# Altium schematic symbol library ICs.SchLib: 131 symbols (part 1 of 2)
Pins are listed as number, name and electrical type; pins without a type are passive.

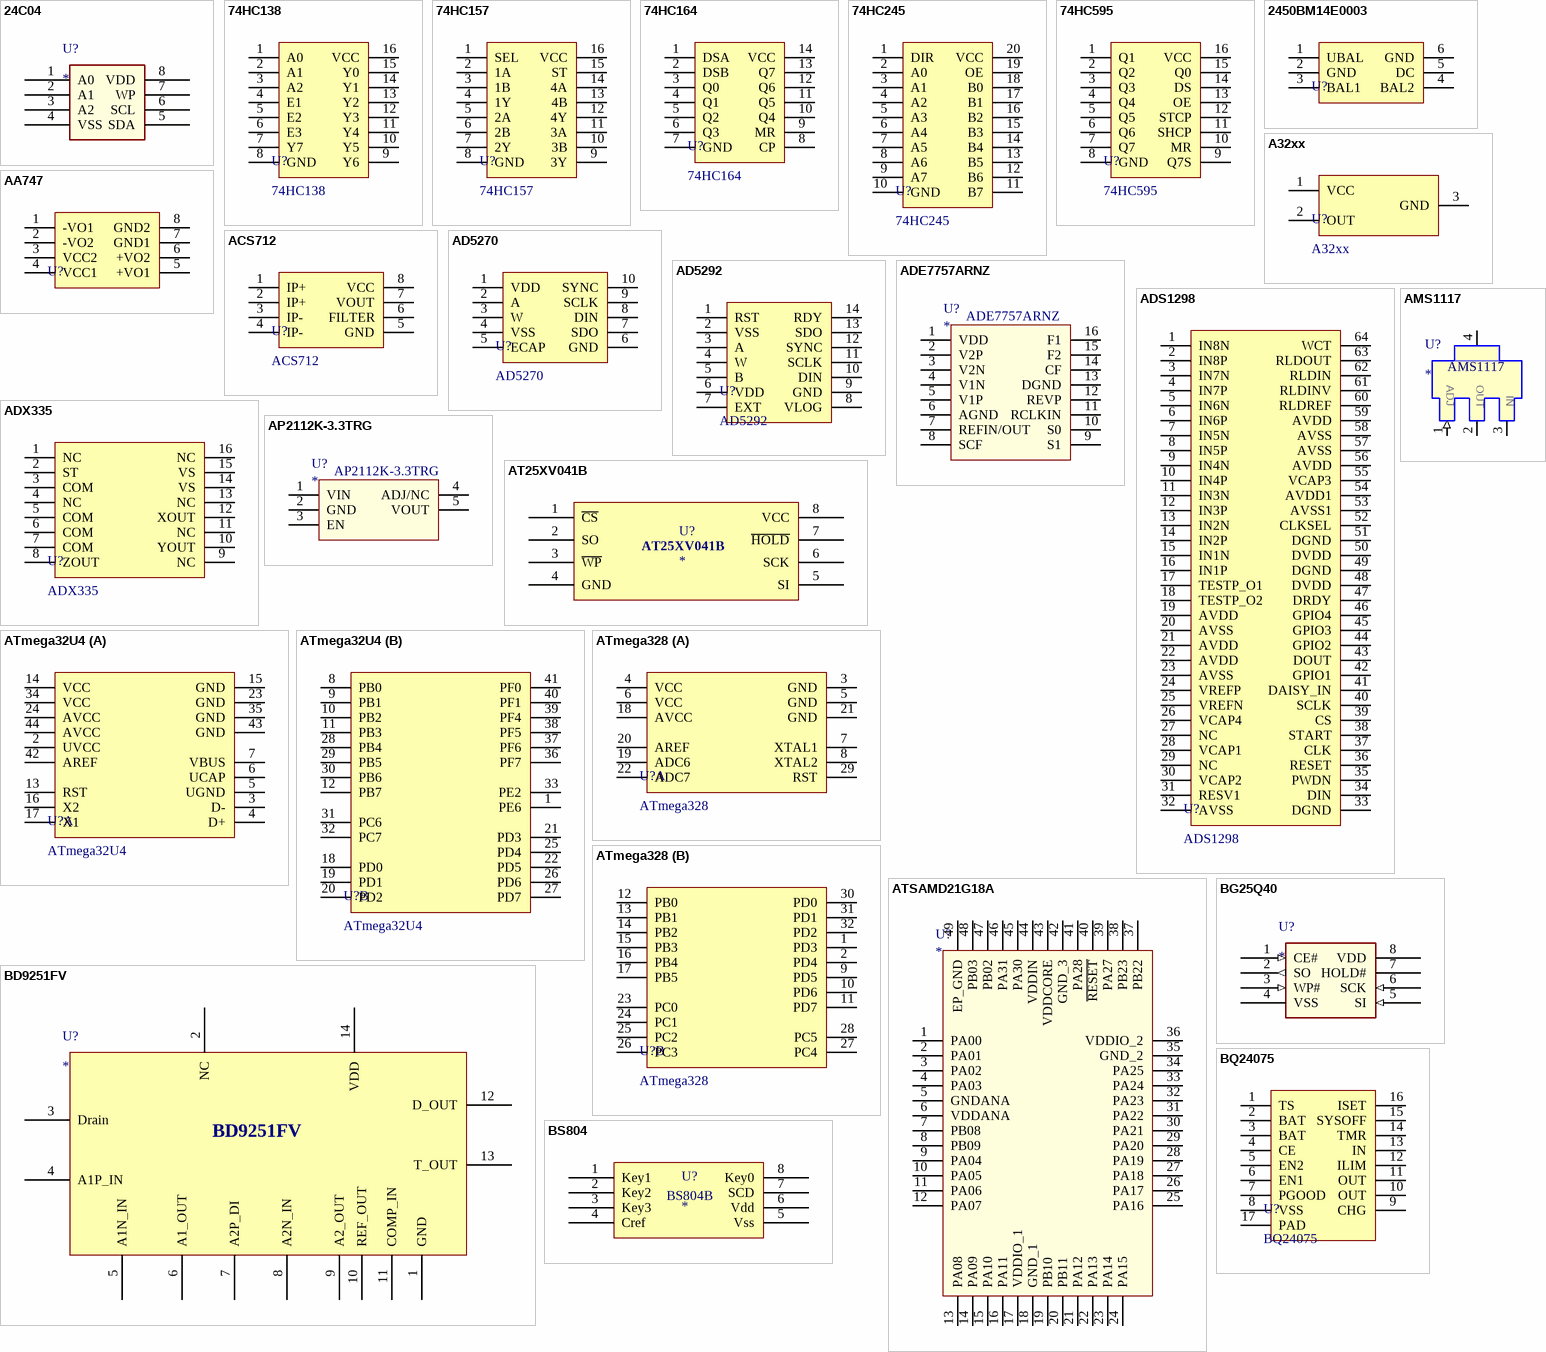
[diagram p0: symbols 24C04 to BS804]

## 24C04
designator U?
footprint SOIC-8
pins: 1 A0, 2 A1, 3 A2, 4 VSS, 5 SDA, 6 SCL, 7 WP, 8 VDD

## 74HC138
designator U?
74 Series
footprint SOP_E150_16
pins: 1 A0, 2 A1, 3 A2, 4 E1, 5 E2, 6 E3, 7 Y7, 8 GND, 9 Y6, 10 Y5, 11 Y4, 12 Y3, 13 Y2, 14 Y1, 15 Y0, 16 VCC

## 74HC157
designator U?
74 Series
footprint SOP_E150_16
pins: 1 SEL, 2 1A, 3 1B, 4 1Y, 5 2A, 6 2B, 7 2Y, 8 GND, 9 3Y, 10 3B, 11 3A, 12 4Y, 13 4B, 14 4A, 15 ST, 16 VCC

## 74HC164
designator U?
74 Series
footprint SOP_E150_14
pins: 1 DSA, 2 DSB, 3 Q0, 4 Q1, 5 Q2, 6 Q3, 7 GND, 8 CP, 9 MR, 10 Q4, 11 Q5, 12 Q6, 13 Q7, 14 VCC

## 74HC245
designator U?
74 Series
footprint SOP_E300_20
pins: 1 DIR, 2 A0, 3 A1, 4 A2, 5 A3, 6 A4, 7 A5, 8 A6, 9 A7, 10 GND, 11 B7, 12 B6, 13 B5, 14 B4, 15 B3, 16 B2, 17 B1, 18 B0, 19 OE, 20 VCC

## 74HC595
designator U?
74 Series
footprint SOP_E150_16
pins: 1 Q1, 2 Q2, 3 Q3, 4 Q4, 5 Q5, 6 Q6, 7 Q7, 8 GND, 9 Q7S, 10 MR, 11 SHCP, 12 STCP, 13 OE, 14 DS, 15 Q0, 16 VCC

## 2450BM14E0003
designator U?  (value not drawn)
Balun
footprint SMD_E60x30_P0.5_6
pins: 1 UBAL, 2 GND, 3 BAL1, 4 BAL2, 5 DC, 6 GND

## A32xx
designator U?
Sensor Hall
footprint SOT23-3
pins: 1 VCC, 2 OUT, 3 GND

## AA747
designator U?  (value not drawn)
Angular Sensor; Manufacturer: Sensitec GmbH; Value: E150 P1.27; Specification: -40 °C to +150 °C; Type: SOP8
footprint SOP_E150_8
pins: 1 -VO1, 2 -VO2, 3 VCC2, 4 VCC1, 5 +VO1, 6 +VO2, 7 GND1, 8 GND2

## ACS712
designator U?
Sensor Current
footprint SOP_E150_8
pins: 1 IP+, 2 IP+, 3 IP-, 4 IP-, 5 GND, 6 FILTER, 7 VOUT, 8 VCC

## AD5270
designator U?
Digital Pot
footprint MS5611
pins: 1 VDD, 2 A, 3 W, 4 VSS, 5 ECAP, 6 GND, 7 SDO, 8 DIN, 9 SCLK, 10 SYNC

## AD5292
designator U?
Digital Pot
footprint TSSOP_E170_P0.65_14
pins: 1 RST, 2 VSS, 3 A, 4 W, 5 B, 6 VDD, 7 EXT, 8 VLOG, 9 GND, 10 DIN, 11 SCLK, 12 SYNC, 13 SDO, 14 RDY

## ADE7757ARNZ
designator U?
footprint SOIC16 (9.90 mm × 3.91 mm)
pins: 1 VDD, 2 V2P, 3 V2N, 4 V1N, 5 V1P, 6 AGND, 7 REFIN/OUT, 8 SCF, 9 S1, 10 S0, 11 RCLKIN, 12 REVP, 13 DGND, 14 CF, 15 F2, 16 F1

## ADS1298
designator U?
ECG
footprint LQFP_P0.5_64
pins: 1 IN8N, 2 IN8P, 3 IN7N, 4 IN7P, 5 IN6N, 6 IN6P, 7 IN5N, 8 IN5P, 9 IN4N, 10 IN4P, 11 IN3N, 12 IN3P, 13 IN2N, 14 IN2P, 15 IN1N, 16 IN1P, 17 TESTP_O1, 18 TESTP_O2, 19 AVDD, 20 AVSS, 21 AVDD, 22 AVDD, 23 AVSS, 24 VREFP, 25 VREFN, 26 VCAP4, 27 NC, 28 VCAP1, 29 NC, 30 VCAP2, 31 RESV1, 32 AVSS, 33 DGND, 34 DIN, 35 PWDN, 36 RESET, 37 CLK, 38 START, 39 CS, 40 SCLK, 41 DAISY_IN, 42 GPIO1, 43 DOUT, 44 GPIO2, 45 GPIO3, 46 GPIO4, 47 DRDY, 48 DVDD, 49 DGND, 50 DVDD, 51 DGND, 52 CLKSEL, 53 AVSS1, 54 AVDD1, 55 VCAP3, 56 AVDD, 57 AVSS, 58 AVSS, 59 AVDD, 60 RLDREF, 61 RLDINV, 62 RLDIN, 63 RLDOUT, 64 WCT

## ADX335
designator U?
Sensor Motion
footprint QFN_P0.65_16
pins: 1 NC, 2 ST, 3 COM, 4 NC, 5 COM, 6 COM, 7 COM, 8 ZOUT, 9 NC, 10 YOUT, 11 NC, 12 XOUT, 13 NC, 14 VS, 15 VS, 16 NC

## AMS1117
designator U?
footprint SOT223 (SOT223, 4-Leads, Body 6.50x7.00mm (avg), Pitch 2.30mm, IPC Medium Density)
pins: 1 ADJ (in), 2 OUT (power), 3 IN (power), 4 VOUT (power)

## AP2112K-3.3TRG
designator U?
footprint SOT95P282X130-5N
pins: 1 VIN, 2 GND, 3 EN, 4 ADJ/NC, 5 VOUT

## AT25XV041B
designator U?
footprint 8-UDFN (8-UDFN, 8-Leads, Body 1.95x2.95mm, Pitch 0.50mm, IPC Medium Density)
pins: 1 ~{CS}, 2 SO, 3 ~{WP}, 4 GND, 5 SI, 6 SCK, 7 ~{HOLD}, 8 VCC

## ATmega32U4
designator U?
MCU
footprint QFN_P0.5_44
part A pins: 2 UVCC, 3 D-, 4 D+, 5 UGND, 6 UCAP, 7 VBUS, 13 RST, 14 VCC, 15 GND, 16 X2, 17 X1, 23 GND, 24 AVCC, 34 VCC, 35 GND, 42 AREF, 43 GND, 44 AVCC
part B pins: 1 PE6, 8 PB0, 9 PB1, 10 PB2, 11 PB3, 12 PB7, 18 PD0, 19 PD1, 20 PD2, 21 PD3, 22 PD5, 25 PD4, 26 PD6, 27 PD7, 28 PB4, 29 PB5, 30 PB6, 31 PC6, 32 PC7, 33 PE2, 36 PF7, 37 PF6, 38 PF5, 39 PF4, 40 PF1, 41 PF0

## ATmega328
designator U?
MCU
footprint LQFP_P0.8_32
part A pins: 3 GND, 4 VCC, 5 GND, 6 VCC, 7 XTAL1, 8 XTAL2, 18 AVCC, 19 ADC6, 20 AREF, 21 GND, 22 ADC7, 29 RST
part B pins: 1 PD3, 2 PD4, 9 PD5, 10 PD6, 11 PD7, 12 PB0, 13 PB1, 14 PB2, 15 PB3, 16 PB4, 17 PB5, 23 PC0, 24 PC1, 25 PC2, 26 PC3, 27 PC4, 28 PC5, 30 PD0, 31 PD1, 32 PD2

## ATSAMD21G18A
designator U?
footprint QFN50P700X700
pins: 1 PA00, 2 PA01, 3 PA02, 4 PA03, 5 GNDANA, 6 VDDANA (power), 7 PB08, 8 PB09, 9 PA04, 10 PA05, 11 PA06, 12 PA07, 13 PA08, 14 PA09, 15 PA10, 16 PA11, 17 VDDIO_1 (power), 18 GND_1, 19 PB10, 20 PB11, 21 PA12, 22 PA13, 23 PA14, 24 PA15, 25 PA16, 26 PA17, 27 PA18, 28 PA19, 29 PA20, 30 PA21, 31 PA22, 32 PA23, 33 PA24, 34 PA25, 35 GND_2, 36 VDDIO_2 (power), 37 PB22, 38 PB23, 39 PA27, 40 ~{RESET}, 41 PA28, 42 GND_3, 43 VDDCORE (power), 44 VDDIN (power), 45 PA30, 46 PA31, 47 PB02, 48 PB03, 49 EP_GND

## BD9251FV
designator U?
footprint SSOP-B14 (SSOP, 14-Leads, Body 5.10x4.50mm, Pitch 0.65mm, IPC Medium Density)
pins: 1 GND, 2 NC, 3 Drain, 4 A1P_IN, 5 A1N_IN, 6 A1_OUT, 7 A2P_DI, 8 A2N_IN, 9 A2_OUT, 10 REF_OUT, 11 COMP_IN, 12 D_OUT, 13 T_OUT, 14 VDD

## BG25Q40
designator U?
footprint SOIC-8
pins: 1 CE# (in), 2 SO (out), 3 WP# (in), 4 VSS (power), 5 SI (in), 6 SCK (in), 7 HOLD#, 8 VDD (power)

## BQ24075
designator U?
Power; Type: QFN16 P0.5
footprint QFN_P0.5_PAD_16
pins: 1 TS, 2 BAT, 3 BAT, 4 CE, 5 EN2, 6 EN1, 7 PGOOD, 8 VSS, 9 CHG, 10 OUT, 11 OUT, 12 ILIM, 13 IN, 14 TMR, 15 SYSOFF, 16 ISET, 17 PAD

## BS804
designator U?
footprint SOP-8
pins: 1 Key1, 2 Key2, 3 Key3, 4 Cref, 5 Vss, 6 Vdd, 7 SCD, 8 Key0
text: BS804B

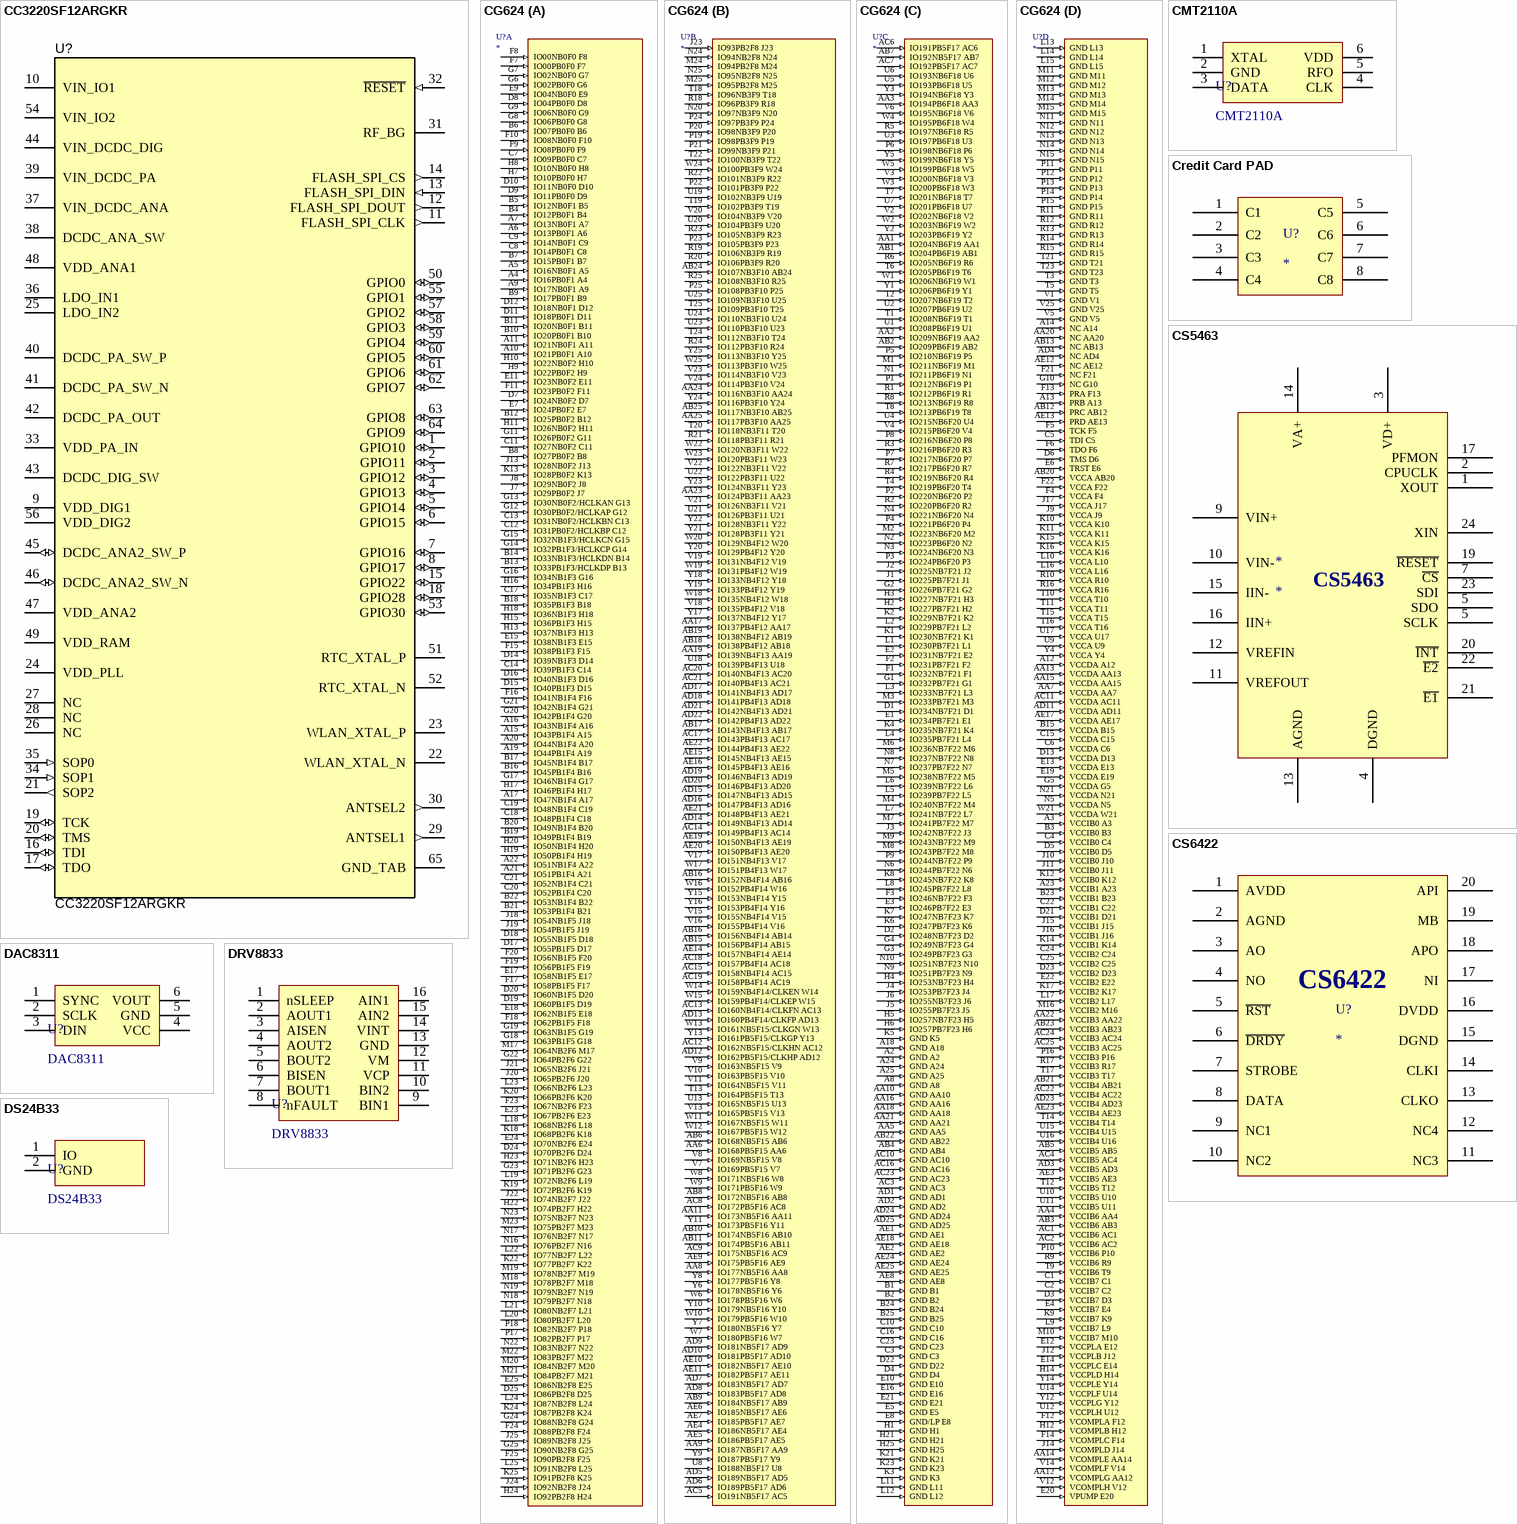
[diagram p1: symbols CC3220SF12ARGKR to DS24B33]

## CC3220SF12ARGKR
designator U?
SimpleLink Wi-Fi and Internet-of-Things Solution, a Single-Chip Wireless MCU, RGK0064B (VQFN-64); Alternate PartNumber: CC3220SF12ARGKT; Manufacturer: Texas Instruments; SymbolCreator: Altium; CompType: IC; U/M: EA; SizeArea_mm2: 81; SizeAreaWB_mm2: 121; SizeX_mm: 9; SizeZ_mm: 1; SymbolVersion: 2015-09-21; PartNumber: CC3220SF12ARGKR; PackageReference: RGK0064B; MountType: SMT; ComponentLink1Description: Datasheet Link; ComponentLink1URL: https://sps06.itg.ti.com/sites/KMS/crossdivteams/altium/docs/ComponentDatasheets/SWAS035_CC3220_Advanced_Information_July2015.pdf; Publisher: Texas Instruments; LatestRevisionDate: 2016-11-18; Alternate Manufacturer: Texas Instruments; PackageDescription: VQFN-64; SizeY_mm: 9
footprint RGK0064B
pins: 1 GPIO10 (io), 2 GPIO11 (io), 3 GPIO12 (io), 4 GPIO13 (io), 5 GPIO14 (io), 6 GPIO15 (io), 7 GPIO16 (io), 8 GPIO17 (io), 9 VDD_DIG1 (power), 10 VIN_IO1 (power), 11 FLASH_SPI_CLK (out), 12 FLASH_SPI_DOUT (out), 13 FLASH_SPI_DIN (in), 14 FLASH_SPI_CS (out), 15 GPIO22 (io), 16 TDI (io), 17 TDO (io), 18 GPIO28 (io), 19 TCK (io), 20 TMS (io), 21 SOP2 (out), 22 WLAN_XTAL_N, 23 WLAN_XTAL_P, 24 VDD_PLL (power), 25 LDO_IN2 (power), 26 NC, 27 NC, 28 NC, 29 ANTSEL1 (out), 30 ANTSEL2 (out), 31 RF_BG, 32 ~{RESET} (in), 33 VDD_PA_IN (power), 34 SOP1 (in), 35 SOP0 (in), 36 LDO_IN1 (power), 37 VIN_DCDC_ANA (power), 38 DCDC_ANA_SW (power), 39 VIN_DCDC_PA (power), 40 DCDC_PA_SW_P (power), 41 DCDC_PA_SW_N (power), 42 DCDC_PA_OUT (power), 43 DCDC_DIG_SW (power), 44 VIN_DCDC_DIG (power), 45 DCDC_ANA2_SW_P (io), 46 DCDC_ANA2_SW_N (io), 47 VDD_ANA2 (power), 48 VDD_ANA1 (power), 49 VDD_RAM (power), 50 GPIO0 (io), 51 RTC_XTAL_P, 52 RTC_XTAL_N, 53 GPIO30 (io), 54 VIN_IO2 (power), 55 GPIO1 (io), 56 VDD_DIG2 (power), 57 GPIO2 (io), 58 GPIO3 (io), 59 GPIO4 (io), 60 GPIO5 (io), 61 GPIO6 (io), 62 GPIO7 (io), 63 GPIO8 (io), 64 GPIO9 (io), 65 GND_TAB (power)

## CG624
designator U?
footprint CG624
part A pins: A4 IO16PB0F1 A4 (in), A5 IO16NB0F1 A5 (in), A6 IO13PB0F1 A6 (in), A7 IO13NB0F1 A7 (in), A9 IO17NB0F1 A9 (in), A10 IO21PB0F1 A10 (in), A11 IO21NB0F1 A11 (in), A15 IO43PB1F4 A15 (in), A16 IO43NB1F4 A16 (in), A17 IO47NB1F4 A17 (in), A19 IO44PB1F4 A19 (in), A20 IO44NB1F4 A20 (in), A21 IO51PB1F4 A21 (in), A22 IO51NB1F4 A22 (in), B4 IO12PB0F1 B4 (in), B5 IO12NB0F1 B5 (in), B6 IO07PB0F0 B6 (in), B7 IO15PB0F1 B7 (in), B8 IO27PB0F2 B8 (in), B9 IO17PB0F1 B9 (in), B10 IO20PB0F1 B10 (in), B11 IO20NB0F1 B11 (in), B12 IO25PB0F2 B12 (in), B13 IO33PB1F3/HCLKDP B13 (in), B14 IO33NB1F3/HCLKDN B14 (in), B16 IO45PB1F4 B16 (in), B17 IO45NB1F4 B17 (in), B18 IO35PB1F3 B18 (in), B19 IO49PB1F4 B19 (in), B20 IO49NB1F4 B20 (in), B21 IO53PB1F4 B21 (in), B22 IO53NB1F4 B22 (in), C7 IO09PB0F0 C7 (in), C8 IO14PB0F1 C8 (in), C9 IO14NB0F1 C9 (in), C11 IO27NB0F2 C11 (in), C12 IO31PB0F2/HCLKBP C12 (in), C13 IO31NB0F2/HCLKBN C13 (in), C14 IO39PB1F3 C14 (in), C17 IO35NB1F3 C17 (in), C18 IO48PB1F4 C18 (in), C19 IO48NB1F4 C19 (in), C20 IO52PB1F4 C20 (in), C21 IO52NB1F4 C21 (in), D7 IO24NB0F2 D7 (in), D8 IO04PB0F0 D8 (in), D9 IO11PB0F0 D9 (in), D10 IO11NB0F0 D10 (in), D11 IO18PB0F1 D11 (in), D12 IO18NB0F1 D12 (in), D14 IO39NB1F3 D14 (in), D15 IO40PB1F3 D15 (in), D16 IO40NB1F3 D16 (in), D17 IO55PB1F5 D17 (in), D18 IO55NB1F5 D18 (in), D19 IO60PB1F5 D19 (in), D20 IO60NB1F5 D20 (in), D24 IO70PB2F6 D24 (in), D25 IO86PB2F8 D25 (in), E7 IO24PB0F2 E7 (in), E9 IO04NB0F0 E9 (in), E11 IO23NB0F2 E11 (in), E15 IO38NB1F3 E15 (in), E17 IO58NB1F5 E17 (in), E18 IO62NB1F5 E18 (in), E23 IO67PB2F6 E23 (in), E24 IO70NB2F6 E24 (in), E25 IO86NB2F8 E25 (in), F7 IO00PB0F0 F7 (in), F8 IO00NB0F0 F8 (in), F9 IO08PB0F0 F9 (in), F10 IO08NB0F0 F10 (in), F11 IO23PB0F2 F11 (in), F15 IO38PB1F3 F15 (in), F16 IO41NB1F4 F16 (in), F17 IO58PB1F5 F17 (in), F18 IO62PB1F5 F18 (in), F19 IO56PB1F5 F19 (in), F20 IO56NB1F5 F20 (in), F23 IO67NB2F6 F23 (in), F24 IO88PB2F8 F24 (in), F25 IO90PB2F8 F25 (in), G6 IO02PB0F0 G6 (in), G7 IO02NB0F0 G7 (in), G8 IO06PB0F0 G8 (in), G9 IO06NB0F0 G9 (in), G11 IO26PB0F2 G11 (in), G12 IO30PB0F2/HCLKAP G12 (in), G13 IO30NB0F2/HCLKAN G13 (in), G14 IO32PB1F3/HCLKCP G14 (in), G15 IO32NB1F3/HCLKCN G15 (in), G16 IO34NB1F3 G16 (in), G17 IO46NB1F4 G17 (in), G18 IO63PB1F5 G18 (in), G19 IO63NB1F5 G19 (in), G20 IO42PB1F4 G20 (in), G21 IO42NB1F4 G21 (in), G22 IO64PB2F6 G22 (in), G23 IO71PB2F6 G23 (in), G24 IO88NB2F8 G24 (in), G25 IO90NB2F8 G25 (in), H7 IO10PB0F0 H7 (in), H8 IO10NB0F0 H8 (in), H9 IO22PB0F2 H9 (in), H10 IO22NB0F2 H10 (in), H11 IO26NB0F2 H11 (in), H13 IO37NB1F3 H13 (in), H15 IO36PB1F3 H15 (in), H16 IO34PB1F3 H16 (in), H17 IO46PB1F4 H17 (in), H18 IO36NB1F3 H18 (in), H19 IO50PB1F4 H19 (in), H20 IO50NB1F4 H20 (in), H22 IO74PB2F7 H22 (in), H23 IO71NB2F6 H23 (in), H24 IO92PB2F8 H24 (in), J7 IO29PB0F2 J7 (in), J8 IO29NB0F2 J8 (in), J13 IO28NB0F2 J13 (in), J18 IO54NB1F5 J18 (in), J19 IO54PB1F5 J19 (in), J20 IO65PB2F6 J20 (in), J21 IO65NB2F6 J21 (in), J22 IO74NB2F7 J22 (in), J24 IO92NB2F8 J24 (in), J25 IO89NB2F8 J25 (in), K13 IO28PB0F2 K13 (in), K18 IO68PB2F6 K18 (in), K19 IO72PB2F6 K19 (in), K20 IO66PB2F6 K20 (in), K22 IO77PB2F7 K22 (in), K24 IO87PB2F8 K24 (in), K25 IO91PB2F8 K25 (in), L18 IO68NB2F6 L18 (in), L19 IO72NB2F6 L19 (in), L20 IO80PB2F7 L20 (in), L21 IO80NB2F7 L21 (in), L22 IO77NB2F7 L22 (in), L23 IO66NB2F6 L23 (in), L24 IO87NB2F8 L24 (in), L25 IO91NB2F8 L25 (in), M17 IO64NB2F6 M17 (in), M18 IO78PB2F7 M18 (in), M19 IO78NB2F7 M19 (in), M20 IO84NB2F7 M20 (in), M21 IO84PB2F7 M21 (in), M22 IO83PB2F7 M22 (in), M23 IO75PB2F7 M23 (in), N16 IO76PB2F7 N16 (in), N17 IO76NB2F7 N17 (in), N18 IO79PB2F7 N18 (in), N19 IO79NB2F7 N19 (in), N22 IO83NB2F7 N22 (in), N23 IO75NB2F7 N23 (in), P17 IO82PB2F7 P17 (in), P18 IO82NB2F7 P18 (in)
part B pins: AA6 IO168PB5F15 AA6 (in), AA8 IO177NB5F16 AA8 (in), AA9 IO187NB5F17 AA9 (in), AA11 IO173NB5F16 AA11 (in), AA17 IO137PB4F12 AA17 (in), AA19 IO139NB4F13 AA19 (in), AA23 IO124PB3F11 AA23 (in), AA24 IO116NB3F10 AA24 (in), AA25 IO117PB3F10 AA25 (in), AB6 IO168NB5F15 AB6 (in), AB8 IO172NB5F16 AB8 (in), AB9 IO184NB5F17 AB9 (in), AB10 IO174NB5F16 AB10 (in), AB11 IO174PB5F16 AB11 (in), AB15 IO156PB4F14 AB15 (in), AB16 IO152NB4F14 AB16 (in), AB16 IO156NB4F14 AB14 (in), AB17 IO143NB4F13 AB17 (in), AB18 IO138PB4F12 AB18 (in), AB19 IO138NB4F12 AB19 (in), AB24 IO107NB3F10 AB24 (in), AB25 IO117NB3F10 AB25 (in), AC5 IO191NB5F17 AC5 (in), AC8 IO172PB5F16 AC8 (in), AC9 IO175NB5F16 AC9 (in), AC12 IO162NB5F15/CLKHN AC12 (in), AC13 IO160NB4F14/CLKFN AC13 (in), AC14 IO149PB4F13 AC14 (in), AC15 IO158NB4F14 AC15 (in), AC17 IO143PB4F13 AC17 (in), AC18 IO157PB4F14 AC18 (in), AC19 IO158PB4F14 AC19 (in), AC20 IO140NB4F13 AC20 (in), AC21 IO140PB4F13 AC21 (in), AD5 IO189NB5F17 AD5 (in), AD6 IO189PB5F17 AD6 (in), AD7 IO183NB5F17 AD7 (in), AD8 IO183PB5F17 AD8 (in), AD9 IO181NB5F17 AD9 (in), AD10 IO181PB5F17 AD10 (in), AD12 IO162PB5F15/CLKHP AD12 (in), AD13 IO160PB4F14/CLKFP AD13 (in), AD14 IO149NB4F13 AD14 (in), AD15 IO147NB4F13 AD15 (in), AD16 IO147PB4F13 AD16 (in), AD17 IO141NB4F13 AD17 (in), AD18 IO141PB4F13 AD18 (in), AD19 IO146NB4F13 AD19 (in), AD20 IO146PB4F13 AD20 (in), AD21 IO142NB4F13 AD21 (in), AD22 IO142PB4F13 AD22 (in), AE4 IO186NB5F17 AE4 (in), AE5 IO186PB5F17 AE5 (in), AE6 IO185NB5F17 AE6 (in), AE7 IO185PB5F17 AE7 (in), AE9 IO175PB5F16 AE9 (in), AE10 IO182NB5F17 AE10 (in), AE11 IO182PB5F17 AE11 (in), AE14 IO157NB4F14 AE14 (in), AE15 IO145NB4F13 AE15 (in), AE16 IO145PB4F13 AE16 (in), AE19 IO150NB4F13 AE19 (in), AE20 IO150PB4F13 AE20 (in), AE21 IO148PB4F13 AE21 (in), AE22 IO144PB4F13 AE22 (in), J23 IO93PB2F8 J23 (in), M24 IO94PB2F8 M24 (in), M25 IO95PB2F8 M25 (in), N20 IO97NB3F9 N20 (in), N24 IO94NB2F8 N24 (in), N25 IO95NB2F8 N25 (in), P19 IO98PB3F9 P19 (in), P20 IO98NB3F9 P20 (in), P21 IO99NB3F9 P21 (in), P22 IO101PB3F9 P22 (in), P23 IO105PB3F9 P23 (in), P24 IO97PB3F9 P24 (in), P25 IO108PB3F10 P25 (in), R18 IO96PB3F9 R18 (in), R19 IO106NB3F9 R19 (in), R20 IO106PB3F9 R20 (in), R21 IO118PB3F11 R21 (in), R22 IO101NB3F9 R22 (in), R23 IO105NB3F9 R23 (in), R24 IO112PB3F10 R24 (in), R25 IO108NB3F10 R25 (in), T13 IO164PB5F15 T13 (in), T18 IO96NB3F9 T18 (in), T19 IO102PB3F9 T19 (in), T20 IO118NB3F11 T20 (in), T22 IO100NB3F9 T22 (in), T24 IO112NB3F10 T24 (in), T25 IO109PB3F10 T25 (in), U8 IO188NB5F17 U8 (in), U13 IO165NB5F15 U13 (in), U18 IO139PB4F13 U18 (in), U19 IO102NB3F9 U19 (in), U20 IO104PB3F9 U20 (in), U21 IO126PB3F11 U21 (in), U22 IO122PB3F11 U22 (in), U23 IO110PB3F10 U23 (in), U24 IO110NB3F10 U24 (in), U25 IO109NB3F10 U25 (in), V7 IO169PB5F15 V7 (in), V8 IO169NB5F15 V8 (in), V9 IO163NB5F15 V9 (in), V10 IO163PB5F15 V10 (in), V11 IO164NB5F15 V11 (in), V13 IO165PB5F15 V13 (in), V15 IO155NB4F14 V15 (in), V16 IO155PB4F14 V16 (in), V17 IO151NB4F13 V17 (in), V18 IO135PB4F12 V18 (in), V19 IO131NB4F12 V19 (in), V20 IO104NB3F9 V20 (in), V21 IO126NB3F11 V21 (in), V22 IO122NB3F11 V22 (in), V23 IO114NB3F10 V23 (in), V24 IO114PB3F10 V24 (in), W6 IO178PB5F16 W6 (in), W7 IO180PB5F16 W7 (in), W8 IO171NB5F16 W8 (in), W9 IO171PB5F16 W9 (in), W10 IO179PB5F16 W10 (in), W11 IO167NB5F15 W11 (in), W12 IO167PB5F15 W12 (in), W13 IO161NB5F15/CLKGN W13 (in), W14 IO159NB4F14/CLKEN W14 (in), W15 IO159PB4F14/CLKEP W15 (in), W16 IO152PB4F14 W16 (in), W17 IO151PB4F13 W17 (in), W18 IO135NB4F12 W18 (in), W19 IO131PB4F12 W19 (in), W20 IO129NB4F12 W20 (in), W22 IO120NB3F11 W22 (in), W23 IO120PB3F11 W23 (in), W24 IO100PB3F9 W24 (in), W25 IO113PB3F10 W25 (in), Y6 IO178NB5F16 Y6 (in), Y7 IO180NB5F16 Y7 (in), Y8 IO177PB5F16 Y8 (in), Y9 IO187PB5F17 Y9 (in), Y10 IO179NB5F16 Y10 (in), Y11 IO173PB5F16 Y11 (in), Y13 IO161PB5F15/CLKGP Y13 (in), Y15 IO153NB4F14 Y15 (in), Y16 IO153PB4F14 Y16 (in), Y17 IO137NB4F12 Y17 (in), Y18 IO133NB4F12 Y18 (in), Y19 IO133PB4F12 Y19 (in), Y20 IO129PB4F12 Y20 (in), Y21 IO128PB3F11 Y21 (in), Y22 IO128NB3F11 Y22 (in), Y23 IO124NB3F11 Y23 (in), Y24 IO116PB3F10 Y24 (in), Y25 IO113NB3F10 Y25 (in)
part C pins: A2 GND A2 (in), A8 GND A8 (in), A18 GND A18 (in), A24 GND A24 (in), A25 GND A25 (in), AA1 IO204NB6F19 AA1 (in), AA2 IO209NB6F19 AA2 (in), AA3 IO194PB6F18 AA3 (in), AA5 GND AA5 (in), AA10 GND AA10 (in), AA16 GND AA16 (in), AA18 GND AA18 (in), AA21 GND AA21 (in), AB1 IO204PB6F19 AB1 (in), AB2 IO209PB6F19 AB2 (in), AB4 GND AB4 (in), AB7 IO192NB5F17 AB7 (in), AB22 GND AB22 (in), AC3 GND AC3 (in), AC6 IO191PB5F17 AC6 (in), AC7 IO192PB5F17 AC7 (in), AC10 GND AC10 (in), AC16 GND AC16 (in), AC23 GND AC23 (in), AD1 GND AD1 (in), AD2 GND AD2 (in), AD24 GND AD24 (in), AD25 GND AD25 (in), AE1 GND AE1 (in), AE2 GND AE2 (in), AE8 GND AE8 (in), AE18 GND AE18 (in), AE24 GND AE24 (in), AE25 GND AE25 (in), B1 GND B1 (in), B2 GND B2 (in), B24 GND B24 (in), B25 GND B25 (in), C3 GND C3 (in), C10 GND C10 (in), C16 GND C16 (in), C23 GND C23 (in), D1 IO234NB7F21 D1 (in), D2 IO248NB7F23 D2 (in), D4 GND D4 (in), D22 GND D22 (in), E1 IO234PB7F21 E1 (in), E2 IO231NB7F21 E2 (in), E3 IO246PB7F22 E3 (in), E5 GND E5 (in), E8 GND/LP E8 (in), E10 GND E10 (in), E16 GND E16 (in), E21 GND E21 (in), F1 IO232NB7F21 F1 (in), F2 IO231PB7F21 F2 (in), F3 IO246NB7F22 F3 (in), G1 IO232PB7F21 G1 (in), G2 IO226PB7F21 G2 (in), G3 IO249PB7F23 G3 (in), G4 IO249NB7F23 G4 (in), H1 GND H1 (in), H2 IO227PB7F21 H2 (in), H3 IO227NB7F21 H3 (in), H4 IO253NB7F23 H4 (in), H5 IO257NB7F23 H5 (in), H6 IO257PB7F23 H6 (in), H21 GND H21 (in), H25 GND H25 (in), J1 IO225PB7F21 J1 (in), J2 IO225NB7F21 J2 (in), J3 IO242NB7F22 J3 (in), J4 IO253PB7F23 J4 (in), J5 IO255PB7F23 J5 (in), J6 IO255NB7F23 J6 (in), K1 IO230NB7F21 K1 (in), K2 IO229NB7F21 K2 (in), K3 GND K3 (in), K4 IO235NB7F21 K4 (in), K5 GND K5 (in), K6 IO247PB7F23 K6 (in), K7 IO247NB7F23 K7 (in), K8 IO245NB7F22 K8 (in), K21 GND K21 (in), K23 GND K23 (in), L1 IO230PB7F21 L1 (in), L2 IO229PB7F21 L2 (in), L3 IO233NB7F21 L3 (in), L4 IO235PB7F21 L4 (in), L5 IO239PB7F22 L5 (in), L6 IO239NB7F22 L6 (in), L7 IO241NB7F22 L7 (in), L8 IO245PB7F22 L8 (in), L11 GND L11 (in), L12 GND L12 (in), M1 IO211NB6F19 M1 (in), M2 IO223NB6F20 M2 (in), M3 IO233PB7F21 M3 (in), M4 IO240NB7F22 M4 (in), M5 IO238NB7F22 M5 (in), M6 IO236NB7F22 M6 (in), M7 IO241PB7F22 M7 (in), M8 IO243PB7F22 M8 (in), M9 IO243NB7F22 M9 (in), N1 IO211PB6F19 N1 (in), N2 IO223PB6F20 N2 (in), N3 IO224NB6F20 N3 (in), N4 IO221NB6F20 N4 (in), N6 IO244PB7F22 N6 (in), N7 IO237PB7F22 N7 (in), N8 IO237NB7F22 N8 (in), N9 IO251PB7F23 N9 (in), N10 IO251NB7F23 N10 (in), P1 IO212NB6F19 P1 (in), P2 IO220NB6F20 P2 (in), P3 IO224PB6F20 P3 (in), P4 IO221PB6F20 P4 (in), P5 IO210NB6F19 P5 (in), P6 IO198NB6F18 P6 (in), P7 IO217NB6F20 P7 (in), P8 IO216NB6F20 P8 (in), P9 IO244NB7F22 P9 (in), R1 IO212PB6F19 R1 (in), R2 IO220PB6F20 R2 (in), R3 IO216PB6F20 R3 (in), R4 IO219NB6F20 R4 (in), R5 IO197NB6F18 R5 (in), R6 IO205NB6F19 R6 (in), R7 IO217PB6F20 R7 (in), R8 IO213NB6F19 R8 (in), T1 IO208NB6F19 T1 (in), T2 IO207NB6F19 T2 (in), T4 IO219PB6F20 T4 (in), T6 IO205PB6F19 T6 (in), T7 IO201NB6F18 T7 (in), T8 IO213PB6F19 T8 (in), U1 IO208PB6F19 U1 (in), U2 IO207PB6F19 U2 (in), U3 IO197PB6F18 U3 (in), U4 IO215NB6F20 U4 (in), U5 IO193PB6F18 U5 (in), U6 IO193NB6F18 U6 (in), U7 IO201PB6F18 U7 (in), V2 IO202NB6F18 V2 (in), V3 IO200NB6F18 V3 (in), V4 IO215PB6F20 V4 (in), V6 IO195NB6F18 V6 (in), W1 IO206NB6F19 W1 (in), W2 IO203NB6F19 W2 (in), W3 IO200PB6F18 W3 (in), W4 IO195PB6F18 W4 (in), W5 IO199PB6F18 W5 (in), Y1 IO206PB6F19 Y1 (in), Y2 IO203PB6F19 Y2 (in), Y3 IO194NB6F18 Y3 (in), Y5 IO199NB6F18 Y5 (in)
part D pins: A3 VCCIB0 A3 (in), A12 VCCDA A12 (in), A13 PRB A13 (in), A14 NC A14 (in), A23 VCCIB1 A23 (in), AA4 VCCIB6 AA4 (in), AA7 VCCDA AA7 (in), AA12 VCOMPLG AA12 (in), AA13 VCCDA AA13 (in), AA14 VCOMPLE AA14 (in), AA15 VCCDA AA15 (in), AA20 NC AA20 (in), AA22 VCCIB3 AA22 (in), AB3 VCCIB6 AB3 (in), AB5 VCCIB5 AB5 (in), AB12 PRC AB12 (in), AB13 NC AB13 (in), AB20 VCCA AB20 (in), AB21 VCCIB4 AB21 (in), AB23 VCCIB3 AB23 (in), AC1 VCCIB6 AC1 (in), AC2 VCCIB6 AC2 (in), AC4 VCCIB5 AC4 (in), AC11 VCCDA AC11 (in), AC22 VCCIB4 AC22 (in), AC24 VCCIB3 AC24 (in), AC25 VCCIB3 AC25 (in), AD3 VCCIB5 AD3 (in), AD4 NC AD4 (in), AD11 VCCDA AD11 (in), AD23 VCCIB4 AD23 (in), AE3 VCCIB5 AE3 (in), AE12 NC AE12 (in), AE13 PRD AE13 (in), AE17 VCCDA AE17 (in), AE23 VCCIB4 AE23 (in), B3 VCCIB0 B3 (in), B15 VCCDA B15 (in), B23 VCCIB1 B23 (in), C1 VCCIB7 C1 (in), C2 VCCIB7 C2 (in), C4 VCCIB0 C4 (in), C5 TDI C5 (in), C6 VCCDA C6 (in), C15 VCCDA C15 (in), C22 VCCIB1 C22 (in), C24 VCCIB2 C24 (in), C25 VCCIB2 C25 (in), D3 VCCIB7 D3 (in), D5 VCCIB0 D5 (in), D6 TMS D6 (in), D13 VCCDA D13 (in), D21 VCCIB1 D21 (in), D23 VCCIB2 D23 (in), E4 VCCIB7 E4 (in), E6 TRST E6 (in), E12 VCCPLA E12 (in), E13 VCCDA E13 (in), E14 VCCPLC E14 (in), E19 VCCDA E19 (in), E20 VPUMP E20 (in), E22 VCCIB2 E22 (in), F4 VCCA F4 (in), F5 TCK F5 (in), F6 TDO F6 (in), F12 VCOMPLA F12 (in), F13 PRA F13 (in), F14 VCOMPLC F14 (in), F21 NC F21 (in), F22 VCCA F22 (in), G5 VCCDA G5 (in), G10 NC G10 (in), H12 VCOMPLB H12 (in), H14 VCCPLD H14 (in), J9 VCCA J9 (in), J10 VCCIB0 J10 (in), J11 VCCIB0 J11 (in), J12 VCCPLB J12 (in), J14 VCOMPLD J14 (in), J15 VCCIB1 J15 (in), J16 VCCIB1 J16 (in), J17 VCCA J17 (in), K9 VCCIB7 K9 (in), K10 VCCA K10 (in), K11 VCCA K11 (in), K12 VCCIB0 K12 (in), K14 VCCIB1 K14 (in), K15 VCCA K15 (in), K16 VCCA K16 (in), K17 VCCIB2 K17 (in), L9 VCCIB7 L9 (in), L10 VCCA L10 (in), L13 GND L13 (in), L14 GND L14 (in), L15 GND L15 (in), L16 VCCA L16 (in), L17 VCCIB2 L17 (in), M10 VCCIB7 M10 (in), M11 GND M11 (in), M12 GND M12 (in), M13 GND M13 (in), M14 GND M14 (in), M15 GND M15 (in), M16 VCCIB2 M16 (in), N5 VCCDA N5 (in), N11 GND N11 (in), N12 GND N12 (in), N13 GND N13 (in), N14 GND N14 (in), N15 GND N15 (in), N21 VCCDA N21 (in), P10 VCCIB6 P10 (in), P11 GND P11 (in), P12 GND P12 (in), P13 GND P13 (in), P14 GND P14 (in), P15 GND P15 (in), P16 VCCIB3 P16 (in), R9 VCCIB6 R9 (in), R10 VCCA R10 (in), R11 GND R11 (in), R12 GND R12 (in), R13 GND R13 (in), R14 GND R14 (in), R15 GND R15 (in), R16 VCCA R16 (in), R17 VCCIB3 R17 (in), T3 GND T3 (in), T5 GND T5 (in), T9 VCCIB6 T9 (in), T10 VCCA T10 (in), T11 VCCA T11 (in), T12 VCCIB5 T12 (in), T14 VCCIB4 T14 (in), T15 VCCA T15 (in), T16 VCCA T16 (in), T17 VCCIB3 T17 (in), T21 GND T21 (in), T23 GND T23 (in), U9 VCCA U9 (in), U10 VCCIB5 U10 (in), U11 VCCIB5 U11 (in), U12 VCCPLH U12 (in), U14 VCCPLF U14 (in), U15 VCCIB4 U15 (in), U16 VCCIB4 U16 (in), U17 VCCA U17 (in), V1 GND V1 (in), V5 GND V5 (in), V12 VCOMPLH V12 (in), V14 VCOMPLF V14 (in), V25 GND V25 (in), W21 VCCDA W21 (in), Y4 VCCA Y4 (in), Y12 VCCPLG Y12 (in), Y14 VCCPLE Y14 (in)

## CMT2110A
designator U?
RF
footprint SOT23-6
pins: 1 XTAL, 2 GND, 3 DATA, 4 CLK, 5 RFO, 6 VDD

## Credit Card PAD
designator U?
footprint Sim_Pad
pins: 1 C1, 2 C2, 3 C3, 4 C4, 5 C5, 6 C6, 7 C7, 8 C8

## CS5463
designator *
pins: 1 XOUT, 2 CPUCLK, 3 VD+, 4 DGND, 5 SCLK, 5 SDO, 7 ~{CS}, 9 VIN+, 10 VIN-, 11 VREFOUT, 12 VREFIN, 13 AGND, 14 VA+, 15 IIN-, 16 IIN+, 17 PFMON, 19 ~{RESET}, 20 ~{INT}, 21 ~{E1}, 22 ~{E2}, 23 SDI, 24 XIN

## CS6422
designator U?
Supplier 1: Mouser; Supplier Part Number 1: 777-CS6422-CSZR
footprint SOIC20
pins: 1 AVDD, 2 AGND, 3 AO, 4 NO, 5 ~{RST}, 6 ~{DRDY}, 7 STROBE, 8 DATA, 9 NC1, 10 NC2, 11 NC3, 12 NC4, 13 CLKO, 14 CLKI, 15 DGND, 16 DVDD, 17 NI, 18 APO, 19 MB, 20 API

## DAC8311
designator U?
DAC
footprint SOT363-6
pins: 1 SYNC, 2 SCLK, 3 DIN, 4 VCC, 5 GND, 6 VOUT

## DRV8833
designator U?
H-Bridge
footprint TSSOP_E170_P0.65_16
pins: 1 nSLEEP, 2 AOUT1, 3 AISEN, 4 AOUT2, 5 BOUT2, 6 BISEN, 7 BOUT1, 8 nFAULT, 9 BIN1, 10 BIN2, 11 VCP, 12 VM, 13 GND, 14 VINT, 15 AIN2, 16 AIN1

## DS24B33
designator U?
EEPROM
footprint SFN_6x6_2
pins: 1 IO, 2 GND

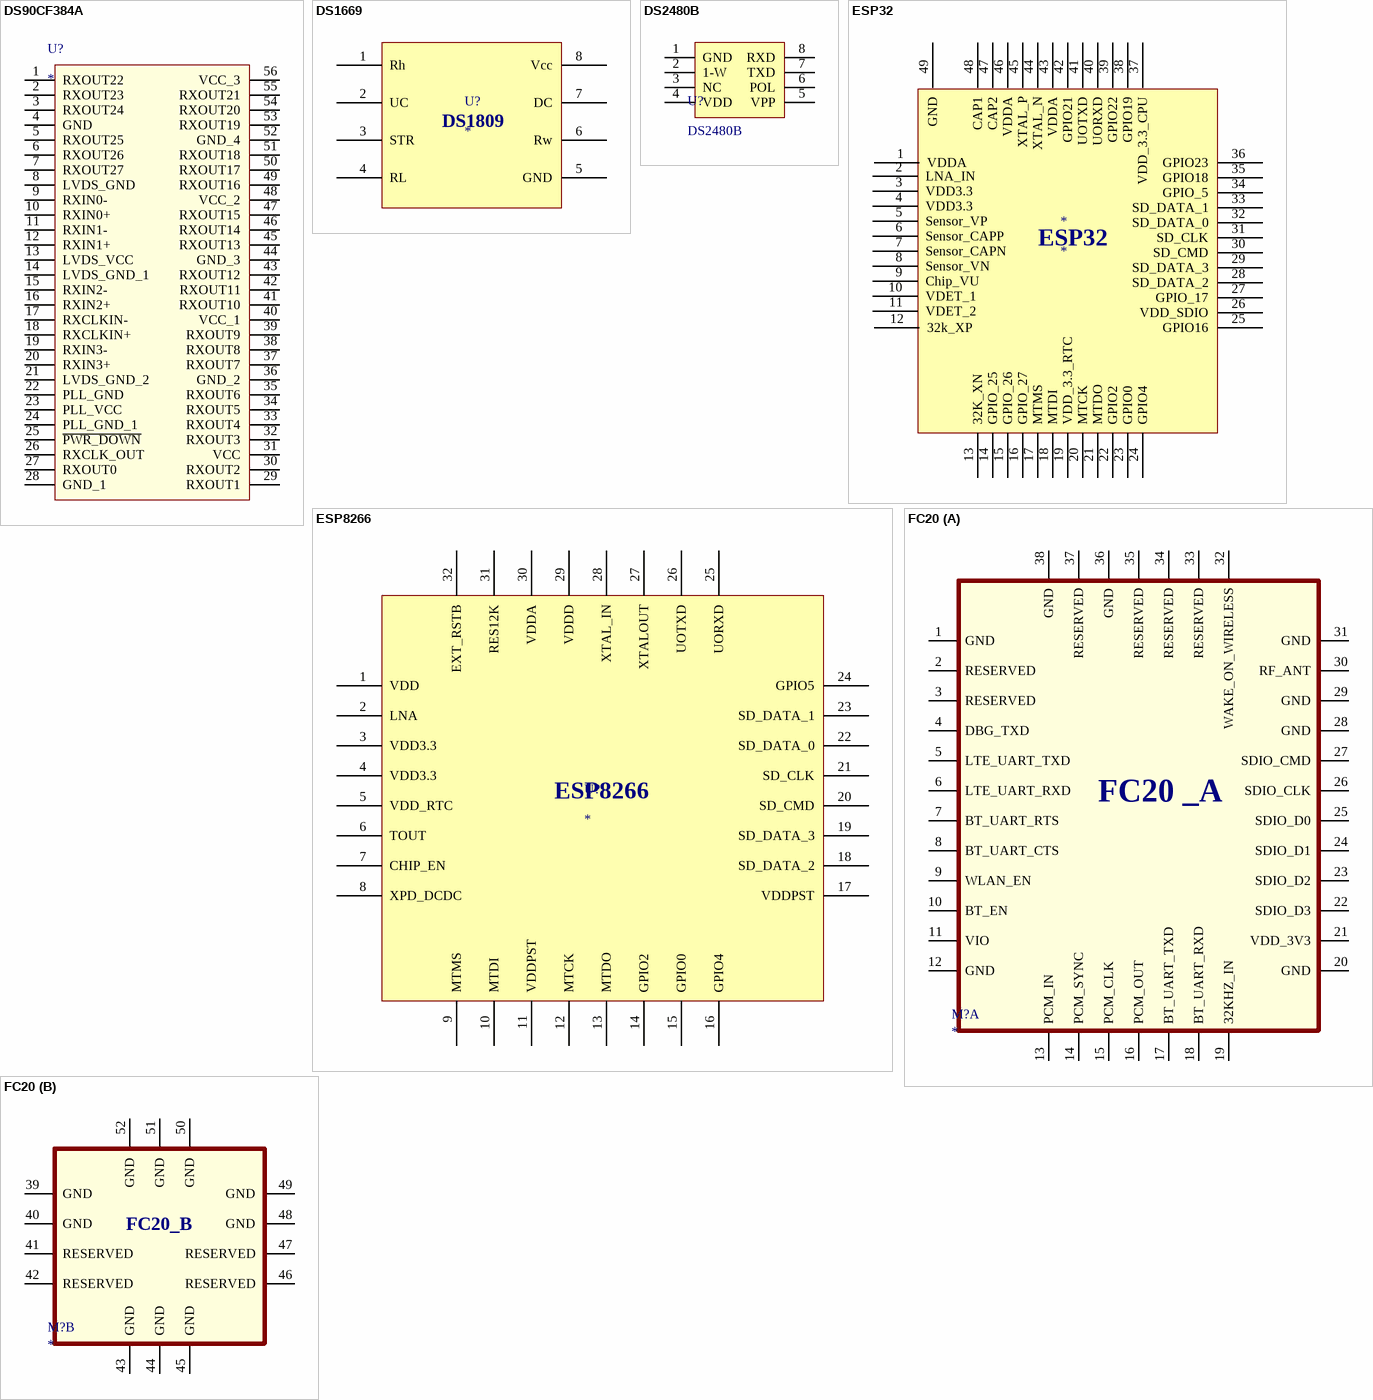
[diagram p2: symbols DS90CF384A to FC20]

## DS90CF384A
designator U?
DS90CF384A
footprint TSSOP-56
pins: 1 RXOUT22, 2 RXOUT23, 3 RXOUT24, 4 GND, 5 RXOUT25, 6 RXOUT26, 7 RXOUT27, 8 LVDS_GND, 9 RXIN0-, 10 RXIN0+, 11 RXIN1-, 12 RXIN1+, 13 LVDS_VCC (power), 14 LVDS_GND_1, 15 RXIN2-, 16 RXIN2+, 17 RXCLKIN-, 18 RXCLKIN+, 19 RXIN3-, 20 RXIN3+, 21 LVDS_GND_2, 22 PLL_GND, 23 PLL_VCC (power), 24 PLL_GND_1, 25 ~{PWR_DOWN}, 26 RXCLK_OUT, 27 RXOUT0, 28 GND_1, 29 RXOUT1, 30 RXOUT2, 31 VCC (power), 32 RXOUT3, 33 RXOUT4, 34 RXOUT5, 35 RXOUT6, 36 GND_2, 37 RXOUT7, 38 RXOUT8, 39 RXOUT9, 40 VCC_1 (power), 41 RXOUT10, 42 RXOUT11, 43 RXOUT12, 44 GND_3, 45 RXOUT13, 46 RXOUT14, 47 RXOUT15, 48 VCC_2 (power), 49 RXOUT16, 50 RXOUT17, 51 RXOUT18, 52 GND_4, 53 RXOUT19, 54 RXOUT20, 55 RXOUT21, 56 VCC_3 (power)

## DS1669
designator U?
footprint uSOP-8
pins: 1 Rh, 2 UC, 3 STR, 4 RL, 5 GND, 6 Rw, 7 DC, 8 Vcc
text: DS1809

## DS2480B
designator U?
Serial to 1-Wire
footprint SOP_E150_8
pins: 1 GND, 2 1-W, 3 NC, 4 VDD, 5 VPP, 6 POL, 7 TXD, 8 RXD

## ESP32
designator *
footprint QFN48_6x6 (QFN, 48-Leads, Body 6.05x6.05mm, Pitch 0.40mm, Thermal Pad 4.25x4.25mm, IPC Medium Density)
pins: 1 VDDA, 2 LNA_IN, 3 VDD3.3, 4 VDD3.3, 5 Sensor_VP, 6 Sensor_CAPP, 7 Sensor_CAPN, 8 Sensor_VN, 9 Chip_VU, 10 VDET_1, 11 VDET_2, 12 32k_XP, 13 32K_XN, 14 GPIO_25, 15 GPIO_26, 16 GPIO_27, 17 MTMS, 18 MTDI, 19 VDD_3.3_RTC, 20 MTCK, 21 MTDO, 22 GPIO2, 23 GPIO0, 24 GPIO4, 25 GPIO16, 26 VDD_SDIO, 27 GPIO_17, 28 SD_DATA_2, 29 SD_DATA_3, 30 SD_CMD, 31 SD_CLK, 32 SD_DATA_0, 33 SD_DATA_1, 34 GPIO_5, 35 GPIO18, 36 GPIO23, 37 VDD_3.3_CPU, 38 GPIO19, 39 GPIO22, 40 UORXD, 41 UOTXD, 42 GPIO21, 43 VDDA, 44 XTAL_N, 45 XTAL_P, 46 VDDA, 47 CAP2, 48 CAP1, 49 GND

## ESP8266
designator U?
footprint QFN32
pins: 1 VDD, 2 LNA, 3 VDD3.3, 4 VDD3.3, 5 VDD_RTC, 6 TOUT, 7 CHIP_EN, 8 XPD_DCDC, 9 MTMS, 10 MTDI, 11 VDDPST, 12 MTCK, 13 MTDO, 14 GPIO2, 15 GPIO0, 16 GPIO4, 17 VDDPST, 18 SD_DATA_2, 19 SD_DATA_3, 20 SD_CMD, 21 SD_CLK, 22 SD_DATA_0, 23 SD_DATA_1, 24 GPIO5, 25 UORXD, 26 UOTXD, 27 XTALOUT, 28 XTAL_IN, 29 VDDD, 30 VDDA, 31 RES12K, 32 EXT_RSTB

## FC20
designator M?
footprint FC_20
part A pins: 1 GND, 2 RESERVED, 3 RESERVED, 4 DBG_TXD, 5 LTE_UART_TXD, 6 LTE_UART_RXD, 7 BT_UART_RTS, 8 BT_UART_CTS, 9 WLAN_EN, 10 BT_EN, 11 VIO, 12 GND, 13 PCM_IN, 14 PCM_SYNC, 15 PCM_CLK, 16 PCM_OUT, 17 BT_UART_TXD, 18 BT_UART_RXD, 19 32KHZ_IN, 20 GND, 21 VDD_3V3, 22 SDIO_D3, 23 SDIO_D2, 24 SDIO_D1, 25 SDIO_D0, 26 SDIO_CLK, 27 SDIO_CMD, 28 GND, 29 GND, 30 RF_ANT, 31 GND, 32 WAKE_ON_WIRELESS, 33 RESERVED, 34 RESERVED, 35 RESERVED, 36 GND, 37 RESERVED, 38 GND
part B pins: 39 GND, 40 GND, 41 RESERVED, 42 RESERVED, 43 GND, 44 GND, 45 GND, 46 RESERVED, 47 RESERVED, 48 GND, 49 GND, 50 GND, 51 GND, 52 GND
part A text: FC20 _A
part B text: FC20_B

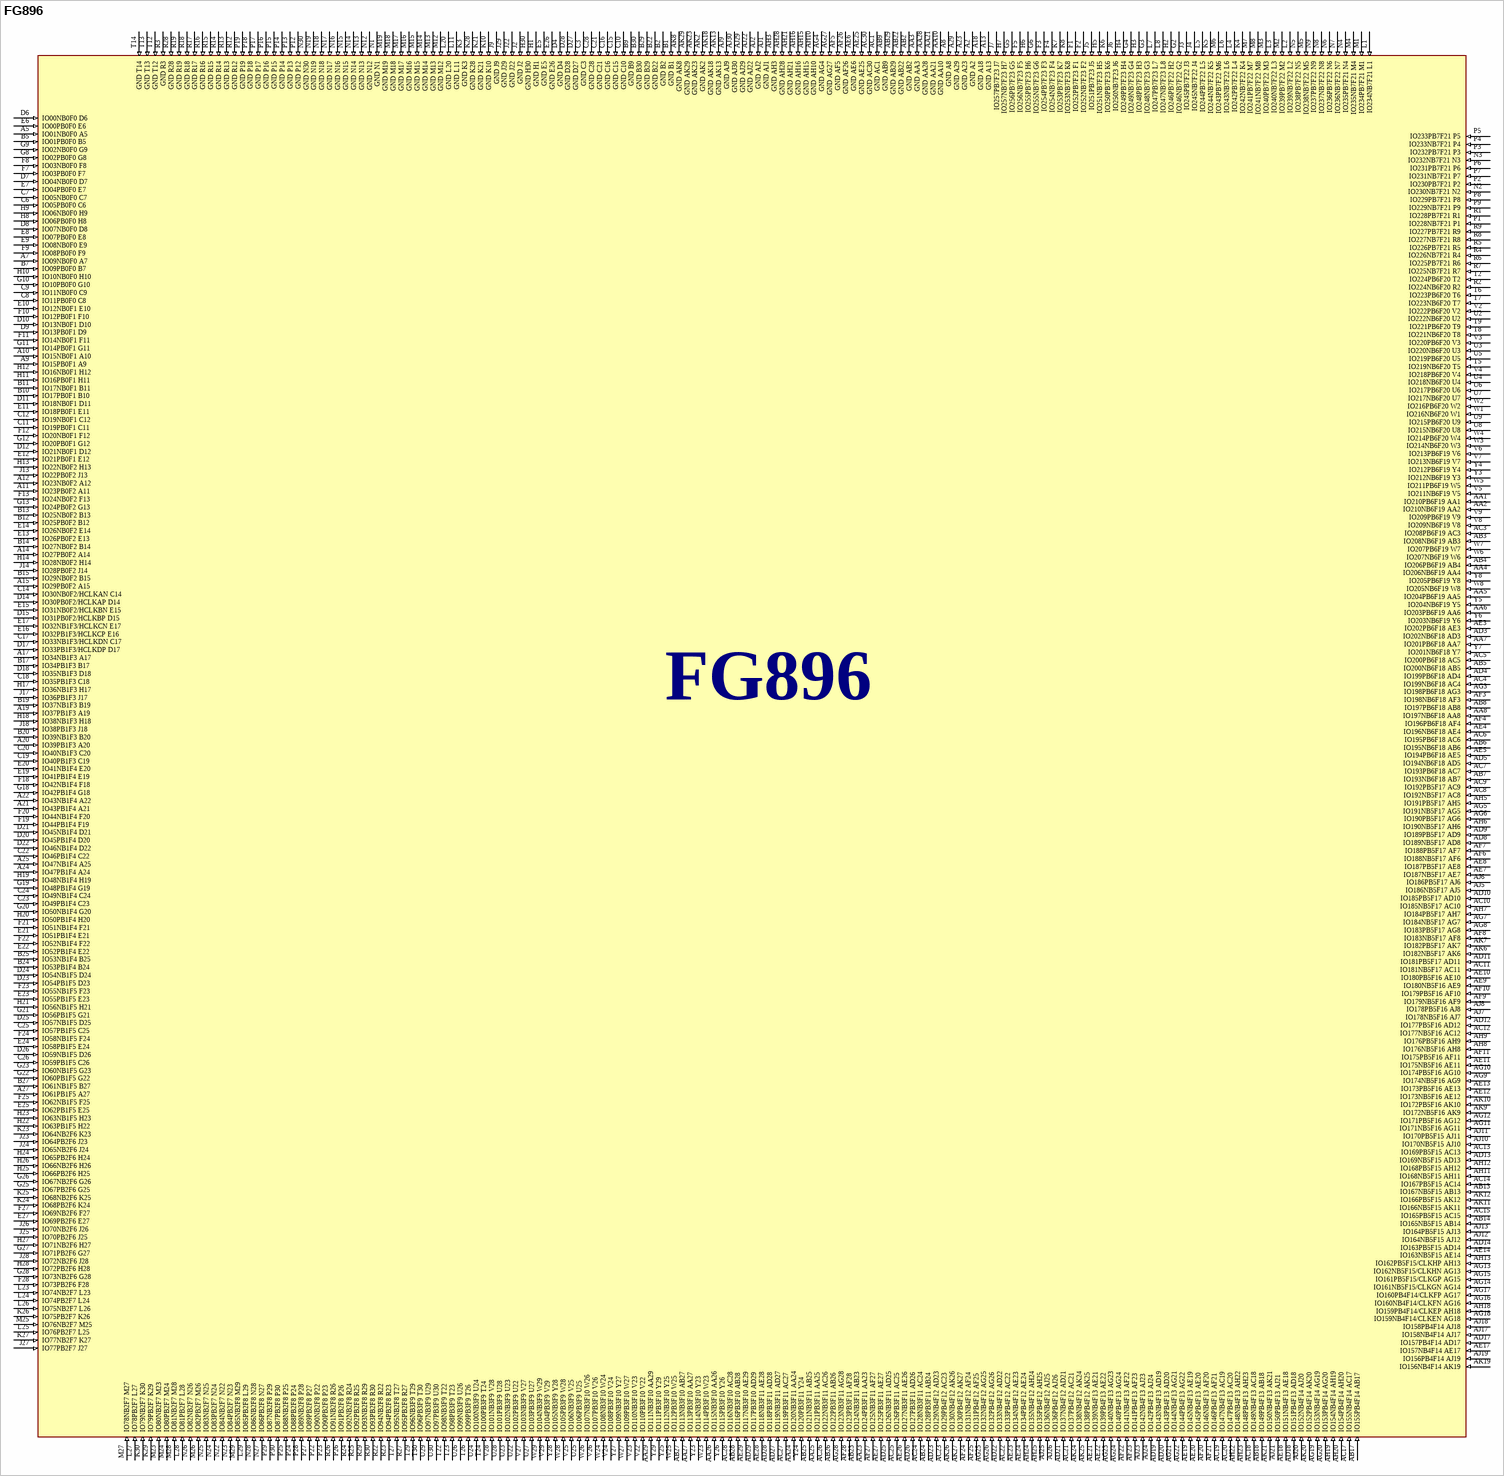
[diagram p3: symbol FG896]

## FG896
designator *
footprint FG896 (BGA, 896-Leads, Body 31.00x31.00mmx2.23mm, Pitch 1.00mm)
pins: A2 GND A2 (in), A5 IO01NB0F0 A5 (in), A7 IO09NB0F0 A7 (in), A8 GND A8 (in), A9 IO15PB0F1 A9 (in), A10 IO15NB0F1 A10 (in), A11 IO23PB0F2 A11 (in), A12 IO23NB0F2 A12 (in), A13 GND A13 (in), A14 IO27PB0F2 A14 (in), A15 IO29PB0F2 A15 (in), A17 IO34NB1F3 A17 (in), A18 GND A18 (in), A19 IO37PB1F3 A19 (in), A20 IO39PB1F3 A20 (in), A21 IO43PB1F4 A21 (in), A22 IO43NB1F4 A22 (in), A23 GND A23 (in), A24 IO47PB1F4 A24 (in), A25 IO47NB1F4 A25 (in), A27 IO61PB1F5 A27 (in), A29 GND A29 (in), AA1 IO210PB6F19 AA1 (in), AA2 IO210NB6F19 AA2 (in), AA3 GND AA3 (in), AA4 IO206NB6F19 AA4 (in), AA5 IO204PB6F19 AA5 (in), AA6 IO203PB6F19 AA6 (in), AA7 IO201PB6F18 AA7 (in), AA8 IO197NB6F18 AA8 (in), AA10 GND AA10 (in), AA21 GND AA21 (in), AA23 IO124PB3F11 AA23 (in), AA24 IO120NB3F11 AA24 (in), AA25 IO121PB3F11 AA25 (in), AA26 IO115NB3F10 AA26 (in), AA27 IO113PB3F10 AA27 (in), AA28 GND AA28 (in), AA29 IO111NB3F10 AA29 (in), AB2 GND AB2 (in), AB3 IO208NB6F19 AB3 (in), AB4 IO206PB6F19 AB4 (in), AB5 IO200NB6F18 AB5 (in), AB6 IO195NB6F18 AB6 (in), AB7 IO193NB6F18 AB7 (in), AB8 IO197PB6F18 AB8 (in), AB9 GND AB9 (in), AB13 IO167NB5F15 AB13 (in), AB14 IO165NB5F15 AB14 (in), AB17 IO155PB4F14 AB17 (in), AB18 IO149PB4F13 AB18 (in), AB22 GND AB22 (in), AB23 IO124NB3F11 AB23 (in), AB24 IO128PB3F11 AB24 (in), AB25 IO121NB3F11 AB25 (in), AB26 IO122PB3F11 AB26 (in), AB27 IO113NB3F10 AB27 (in), AB28 IO116PB3F10 AB28 (in), AB29 GND AB29 (in), AC1 GND AC1 (in), AC3 IO208PB6F19 AC3 (in), AC4 IO199NB6F18 AC4 (in), AC5 IO200PB6F18 AC5 (in), AC6 IO195PB6F18 AC6 (in), AC7 IO193PB6F18 AC7 (in), AC8 IO192NB5F17 AC8 (in), AC9 IO192PB5F17 AC9 (in), AC10 IO185NB5F17 AC10 (in), AC11 IO181NB5F17 AC11 (in), AC12 IO177NB5F16 AC12 (in), AC13 IO169PB5F15 AC13 (in), AC14 IO167PB5F15 AC14 (in), AC15 IO165PB5F15 AC15 (in), AC17 IO155NB4F14 AC17 (in), AC18 IO149NB4F13 AC18 (in), AC19 IO147NB4F13 AC19 (in), AC20 IO147PB4F13 AC20 (in), AC21 IO137PB4F12 AC21 (in), AC22 IO133PB4F12 AC22 (in), AC23 IO129PB4F12 AC23 (in), AC24 IO128NB3F11 AC24 (in), AC25 IO126PB3F11 AC25 (in), AC26 IO122NB3F11 AC26 (in), AC27 IO119PB3F11 AC27 (in), AC28 IO116NB3F10 AC28 (in), AC30 GND AC30 (in), AD3 IO202NB6F18 AD3 (in), AD4 IO199PB6F18 AD4 (in), AD5 IO194NB6F18 AD5 (in), AD8 IO189NB5F17 AD8 (in), AD9 IO189PB5F17 AD9 (in), AD10 IO185PB5F17 AD10 (in), AD11 IO181PB5F17 AD11 (in), AD12 IO177PB5F16 AD12 (in), AD13 IO169NB5F15 AD13 (in), AD14 IO163PB5F15 AD14 (in), AD17 IO157PB4F14 AD17 (in), AD18 IO151PB4F13 AD18 (in), AD19 IO143NB4F13 AD19 (in), AD20 IO143PB4F13 AD20 (in), AD21 IO137NB4F12 AD21 (in), AD22 IO133NB4F12 AD22 (in), AD23 IO129NB4F12 AD23 (in), AD25 IO126NB3F11 AD25 (in), AD26 IO127PB3F11 AD26 (in), AD27 IO119NB3F11 AD27 (in), AD28 IO118PB3F11 AD28 (in), AD29 IO117PB3F10 AD29 (in), AE3 IO202PB6F18 AE3 (in), AE4 IO196NB6F18 AE4 (in), AE5 IO194PB6F18 AE5 (in), AE6 GND AE6 (in), AE7 IO187NB5F17 AE7 (in), AE8 IO187PB5F17 AE8 (in), AE9 IO180NB5F16 AE9 (in), AE10 IO180PB5F16 AE10 (in), AE11 IO175NB5F16 AE11 (in), AE12 IO173NB5F16 AE12 (in), AE13 IO173PB5F16 AE13 (in), AE14 IO163NB5F15 AE14 (in), AE17 IO157NB4F14 AE17 (in), AE18 IO151NB4F13 AE18 (in), AE19 IO145NB4F13 AE19 (in), AE20 IO145PB4F13 AE20 (in), AE21 IO139NB4F13 AE21 (in), AE22 IO139PB4F13 AE22 (in), AE23 IO134NB4F12 AE23 (in), AE24 IO134PB4F12 AE24 (in), AE25 GND AE25 (in), AE26 IO127NB3F11 AE26 (in), AE27 IO125PB3F11 AE27 (in), AE28 IO118NB3F11 AE28 (in), AE29 IO117NB3F10 AE29 (in), AF3 IO198NB6F18 AF3 (in), AF4 IO196PB6F18 AF4 (in), AF5 GND AF5 (in), AF6 IO188NB5F17 AF6 (in), AF7 IO188PB5F17 AF7 (in), AF8 IO183NB5F17 AF8 (in), AF9 IO179NB5F16 AF9 (in), AF10 IO179PB5F16 AF10 (in), AF11 IO175PB5F16 AF11 (in), AF20 IO146NB4F13 AF20 (in), AF21 IO146PB4F13 AF21 (in), AF22 IO141NB4F13 AF22 (in), AF23 IO141PB4F13 AF23 (in), AF24 IO131NB4F12 AF24 (in), AF25 IO131PB4F12 AF25 (in), AF26 GND AF26 (in), AF27 IO125NB3F11 AF27 (in), AF28 IO123PB3F11 AF28 (in), AG3 IO198PB6F18 AG3 (in), AG4 GND AG4 (in), AG5 IO191NB5F17 AG5 (in), AG6 IO190PB5F17 AG6 (in), AG7 IO184NB5F17 AG7 (in), AG8 IO183PB5F17 AG8 (in), AG9 IO174NB5F16 AG9 (in), AG10 IO174PB5F16 AG10 (in), AG11 IO171NB5F16 AG11 (in), AG12 IO171PB5F16 AG12 (in), AG13 IO162NB5F15/CLKHN AG13 (in), AG14 IO161NB5F15/CLKGN AG14 (in), AG15 IO161PB5F15/CLKGP AG15 (in), AG16 IO160NB4F14/CLKFN AG16 (in), AG17 IO160PB4F14/CLKFP AG17 (in), AG18 IO159NB4F14/CLKEN AG18 (in), AG19 IO153NB4F14 AG19 (in), AG20 IO153PB4F14 AG20 (in), AG21 IO144NB4F13 AG21 (in), AG22 IO144PB4F13 AG22 (in), AG23 IO140NB4F13 AG23 (in), AG24 IO140PB4F13 AG24 (in), AG25 IO132NB4F12 AG25 (in), AG26 IO132PB4F12 AG26 (in), AG27 GND AG27 (in), AG28 IO123NB3F11 AG28 (in), AH3 GND AH3 (in), AH5 IO191PB5F17 AH5 (in), AH6 IO190NB5F17 AH6 (in), AH7 IO184PB5F17 AH7 (in), AH8 IO176NB5F16 AH8 (in), AH9 IO176PB5F16 AH9 (in), AH10 GND AH10 (in), AH11 IO168NB5F15 AH11 (in), AH12 IO168PB5F15 AH12 (in), AH13 IO162PB5F15/CLKHP AH13 (in), AH15 GND AH15 (in), AH16 GND AH16 (in), AH18 IO159PB4F14/CLKEP AH18 (in), AH19 IO154NB4F14 AH19 (in), AH20 IO154PB4F14 AH20 (in), AH21 GND AH21 (in), AH22 IO148NB4F13 AH22 (in), AH23 IO148PB4F13 AH23 (in), AH24 IO135NB4F12 AH24 (in), AH25 IO135PB4F12 AH25 (in), AH28 GND AH28 (in), AJ1 GND AJ1 (in), AJ2 GND AJ2 (in), AJ5 IO186NB5F17 AJ5 (in), AJ6 IO186PB5F17 AJ6 (in), AJ7 IO178NB5F16 AJ7 (in), AJ8 IO178PB5F16 AJ8 (in), AJ9 GND AJ9 (in), AJ10 IO170NB5F15 AJ10 (in), AJ11 IO170PB5F15 AJ11 (in), AJ12 IO164NB5F15 AJ12 (in), AJ13 IO164PB5F15 AJ13 (in), AJ17 IO158NB4F14 AJ17 (in), AJ18 IO158PB4F14 AJ18 (in), AJ19 IO156PB4F14 AJ19 (in), AJ20 IO152NB4F14 AJ20 (in), AJ21 IO150PB4F13 AJ21 (in), AJ22 GND AJ22 (in), AJ23 IO142NB4F13 AJ23 (in), AJ24 IO142PB4F13 AJ24 (in), AJ25 IO136NB4F12 AJ25 (in), AJ26 IO136PB4F12 AJ26 (in), AJ29 GND AJ29 (in), AJ30 GND AJ30 (in), AK2 GND AK2 (in), AK6 IO182NB5F17 AK6 (in), AK7 IO182PB5F17 AK7 (in), AK8 GND AK8 (in), AK9 IO172NB5F16 AK9 (in), AK10 IO172PB5F16 AK10 (in), AK11 IO166NB5F15 AK11 (in), AK12 IO166PB5F15 AK12 (in), AK13 GND AK13 (in), AK18 GND AK18 (in), AK19 IO156NB4F14 AK19 (in), AK20 IO152PB4F14 AK20 (in), AK21 IO150NB4F13 AK21 (in), AK23 GND AK23 (in), AK24 IO138NB4F12 AK24 (in), AK25 IO138PB4F12 AK25 (in), AK26 IO130NB4F12 AK26 (in), AK27 IO130PB4F12 AK27 (in), AK29 GND AK29 (in), B1 GND B1 (in), B2 GND B2 (in), B5 IO01PB0F0 B5 (in), B7 IO09PB0F0 B7 (in), B9 GND B9 (in), B10 IO17PB0F1 B10 (in), B11 IO17NB0F1 B11 (in), B12 IO25PB0F2 B12 (in), B13 IO25NB0F2 B13 (in), B14 IO27NB0F2 B14 (in), B15 IO29NB0F2 B15 (in), B17 IO34PB1F3 B17 (in), B19 IO37NB1F3 B19 (in), B20 IO39NB1F3 B20 (in), B22 GND B22 (in), B24 IO53PB1F4 B24 (in), B25 IO53NB1F4 B25 (in), B27 IO61NB1F5 B27 (in), B29 GND B29 (in), B30 GND B30 (in), C3 GND C3 (in), C6 IO05PB0F0 C6 (in), C7 IO05NB0F0 C7 (in), C8 IO11PB0F0 C8 (in), C9 IO11NB0F0 C9 (in), C10 GND C10 (in), C11 IO19PB0F1 C11 (in), C12 IO19NB0F1 C12 (in), C14 IO30NB0F2/HCLKAN C14 (in), C15 GND C15 (in), C16 GND C16 (in), C17 IO33NB1F3/HCLKDN C17 (in), C18 IO35PB1F3 C18 (in), C19 IO40PB1F3 C19 (in), C20 IO40NB1F3 C20 (in), C21 GND C21 (in), C22 IO46PB1F4 C22 (in), C23 IO49PB1F4 C23 (in), C24 IO49NB1F4 C24 (in), C25 IO57PB1F5 C25 (in), C26 IO59PB1F5 C26 (in), C28 GND C28 (in), D4 GND D4 (in), D6 IO00NB0F0 D6 (in), D7 IO04NB0F0 D7 (in), D8 IO07NB0F0 D8 (in), D9 IO13PB0F1 D9 (in), D10 IO13NB0F1 D10 (in), D11 IO18NB0F1 D11 (in), D12 IO21NB0F1 D12 (in), D14 IO30PB0F2/HCLKAP D14 (in), D15 IO31PB0F2/HCLKBP D15 (in), D17 IO33PB1F3/HCLKDP D17 (in), D18 IO35NB1F3 D18 (in), D20 IO45PB1F4 D20 (in), D21 IO45NB1F4 D21 (in), D22 IO46NB1F4 D22 (in), D23 IO54PB1F5 D23 (in), D24 IO54NB1F5 D24 (in), D25 IO57NB1F5 D25 (in), D26 IO59NB1F5 D26 (in), D27 GND D27 (in), D28 GND D28 (in), E5 GND E5 (in), E6 IO00PB0F0 E6 (in), E7 IO04PB0F0 E7 (in), E8 IO07PB0F0 E8 (in), E9 IO08NB0F0 E9 (in), E10 IO12NB0F1 E10 (in), E11 IO18PB0F1 E11 (in), E12 IO21PB0F1 E12 (in), E13 IO26PB0F2 E13 (in), E14 IO26NB0F2 E14 (in), E15 IO31NB0F2/HCLKBN E15 (in), E16 IO32PB1F3/HCLKCP E16 (in), E17 IO32NB1F3/HCLKCN E17 (in), E19 IO41PB1F4 E19 (in), E20 IO41NB1F4 E20 (in), E21 IO51PB1F4 E21 (in), E22 IO52PB1F4 E22 (in), E23 IO55PB1F5 E23 (in), E24 IO58PB1F5 E24 (in), E25 IO62PB1F5 E25 (in), E26 GND E26 (in), E27 IO69PB2F6 E27 (in), F1 IO252PB7F23 F1 (in), F2 IO252NB7F23 F2 (in), F3 IO254PB7F23 F3 (in), F4 IO254NB7F23 F4 (in), F5 IO256NB7F23 F5 (in), F7 IO03PB0F0 F7 (in), F8 IO03NB0F0 F8 (in), F9 IO08PB0F0 F9 (in), F10 IO12PB0F1 F10 (in), F11 IO14NB0F1 F11 (in), F12 IO20NB0F1 F12 (in), F13 IO24NB0F2 F13 (in), F18 IO42NB1F4 F18 (in), F19 IO44PB1F4 F19 (in), F20 IO44NB1F4 F20 (in), F21 IO51NB1F4 F21 (in), F22 IO52NB1F4 F22 (in), F23 IO55NB1F5 F23 (in), F24 IO58NB1F5 F24 (in), F25 IO62NB1F5 F25 (in), F27 IO69NB2F6 F27 (in), F28 IO73PB2F6 F28 (in), G2 IO246NB7F22 G2 (in), G3 IO248NB7F23 G3 (in), G4 IO249NB7F23 G4 (in), G5 IO256PB7F23 G5 (in), G6 IO255NB7F23 G6 (in), G8 IO02PB0F0 G8 (in), G9 IO02NB0F0 G9 (in), G10 IO10PB0F0 G10 (in), G11 IO14PB0F1 G11 (in), G12 IO20PB0F1 G12 (in), G13 IO24PB0F2 G13 (in), G18 IO42PB1F4 G18 (in), G19 IO48PB1F4 G19 (in), G20 IO50NB1F4 G20 (in), G21 IO56PB1F5 G21 (in), G22 IO60PB1F5 G22 (in), G23 IO60NB1F5 G23 (in), G25 IO67PB2F6 G25 (in), G26 IO67NB2F6 G26 (in), G27 IO71PB2F6 G27 (in), G28 IO73NB2F6 G28 (in), H1 GND H1 (in), H2 IO246PB7F22 H2 (in), H3 IO248PB7F23 H3 (in), H4 IO249PB7F23 H4 (in), H5 IO251NB7F23 H5 (in), H6 IO255PB7F23 H6 (in), H7 IO257NB7F23 H7 (in), H8 IO06PB0F0 H8 (in), H9 IO06NB0F0 H9 (in), H10 IO10NB0F0 H10 (in), H11 IO16PB0F1 H11 (in), H12 IO16NB0F1 H12 (in), H13 IO22NB0F2 H13 (in), H14 IO28NB0F2 H14 (in), H17 IO36NB1F3 H17 (in), H18 IO38NB1F3 H18 (in), H19 IO48NB1F4 H19 (in), H20 IO50PB1F4 H20 (in), H21 IO56NB1F5 H21 (in), H22 IO63PB1F5 H22 (in), H23 IO63NB1F5 H23 (in), H24 IO65PB2F6 H24 (in), H25 IO66PB2F6 H25 (in), H26 IO66NB2F6 H26 (in), H27 IO71NB2F6 H27 (in), H28 IO72PB2F6 H28 (in), H30 GND H30 (in), J2 GND J2 (in), J3 IO245PB7F22 J3 (in), J4 IO245NB7F22 J4 (in), J5 IO251PB7F23 J5 (in), J6 IO250NB7F23 J6 (in), J7 IO257PB7F23 J7 (in), J9 GND J9 (in), J13 IO22PB0F2 J13 (in), J14 IO28PB0F2 J14 (in), J17 IO36PB1F3 J17 (in), J18 IO38PB1F3 J18 (in), J22 GND J22 (in), J23 IO64PB2F6 J23 (in), J24 IO65NB2F6 J24 (in), J25 IO70PB2F6 J25 (in), J26 IO70NB2F6 J26 (in), J27 IO77PB2F7 J27 (in), J28 IO72NB2F6 J28 (in), J29 GND J29 (in), K3 GND K3 (in), K4 IO242NB7F22 K4 (in), K5 IO244NB7F22 K5 (in), K6 IO250PB7F23 K6 (in), K7 IO253PB7F23 K7 (in), K8 IO253NB7F23 K8 (in), K10 GND K10 (in), K21 GND K21 (in), K23 IO64NB2F6 K23 (in), K24 IO68PB2F6 K24 (in), K25 IO68NB2F6 K25 (in), K26 IO75PB2F7 K26 (in), K27 IO77NB2F7 K27 (in), K28 GND K28 (in), K29 IO79PB2F7 K29 (in), K30 IO79NB2F7 K30 (in), L1 IO234NB7F21 L1 (in), L2 IO239NB7F22 L2 (in), L3 IO240NB7F22 L3 (in), L4 IO242PB7F22 L4 (in), L5 IO244PB7F22 L5 (in), L6 IO243NB7F22 L6 (in), L7 IO247PB7F23 L7 (in), L8 IO247NB7F23 L8 (in), L11 GND L11 (in), L20 GND L20 (in), L23 IO74NB2F7 L23 (in), L24 IO74PB2F7 L24 (in), L25 IO76PB2F7 L25 (in), L26 IO75NB2F7 L26 (in), L27 IO78PB2F7 L27 (in), L28 IO81PB2F7 L28 (in), L29 IO85PB2F8 L29 (in), M1 IO234PB7F21 M1 (in), M2 IO239PB7F22 M2 (in), M3 IO240PB7F22 M3 (in), M4 IO235NB7F21 M4 (in), M5 IO238NB7F22 M5 (in), M6 IO243PB7F22 M6 (in), M7 IO241PB7F22 M7 (in), M8 IO241NB7F22 M8 (in), M12 GND M12 (in), M13 GND M13 (in), M14 GND M14 (in), M15 GND M15 (in), M16 GND M16 (in), M17 GND M17 (in), M18 GND M18 (in), M19 GND M19 (in), M23 IO80NB2F7 M23 (in), M24 IO80PB2F7 M24 (in), M25 IO76NB2F7 M25 (in), M26 IO82PB2F7 M26 (in), M27 IO78NB2F7 M27 (in), M28 IO81NB2F7 M28 (in), M29 IO85NB2F8 M29 (in), N1 GND N1 (in), N2 IO230NB7F21 N2 (in), N3 IO232NB7F21 N3 (in), N4 IO235PB7F21 N4 (in), N5 IO238PB7F22 N5 (in), N6 IO236PB7F22 N6 (in), N7 IO236NB7F22 N7 (in), N8 IO237NB7F22 N8 (in), N9 IO237PB7F22 N9 (in), N12 GND N12 (in), N13 GND N13 (in), N14 GND N14 (in), N15 GND N15 (in), N16 GND N16 (in), N17 GND N17 (in), N18 GND N18 (in), N19 GND N19 (in), N22 IO84NB2F7 N22 (in), N23 IO84PB2F7 N23 (in), N24 IO83PB2F7 N24 (in), N25 IO83NB2F7 N25 (in), N26 IO82NB2F7 N26 (in), N27 IO86PB2F8 N27 (in), N28 IO86NB2F8 N28 (in), N30 GND N30 (in), P1 IO228NB7F21 P1 (in), P2 IO230PB7F21 P2 (in), P3 IO232PB7F21 P3 (in), P4 IO233NB7F21 P4 (in), P5 IO233PB7F21 P5 (in), P6 IO231PB7F21 P6 (in), P7 IO231NB7F21 P7 (in), P8 IO229PB7F21 P8 (in), P9 IO229NB7F21 P9 (in), P12 GND P12 (in), P13 GND P13 (in), P14 GND P14 (in), P15 GND P15 (in), P16 GND P16 (in), P17 GND P17 (in), P18 GND P18 (in), P19 GND P19 (in), P22 IO90NB2F8 P22 (in), P23 IO90PB2F8 P23 (in), P24 IO88PB2F8 P24 (in), P25 IO88NB2F8 P25 (in), P26 IO91PB2F8 P26 (in), P27 IO89PB2F8 P27 (in), P28 IO89NB2F8 P28 (in), P29 IO87NB2F8 P29 (in), P30 IO87PB2F8 P30 (in), R1 IO228PB7F21 R1 (in), R2 IO224NB6F20 R2 (in), R3 GND R3 (in), R4 IO226NB7F21 R4 (in), R5 IO226PB7F21 R5 (in), R6 IO225PB7F21 R6 (in), R7 IO225NB7F21 R7 (in), R8 IO227NB7F21 R8 (in), R9 IO227PB7F21 R9 (in), R12 GND R12 (in), R13 GND R13 (in), R14 GND R14 (in), R15 GND R15 (in), R16 GND R16 (in), R17 GND R17 (in), R18 GND R18 (in), R19 GND R19 (in), R22 IO94NB2F8 R22 (in), R23 IO94PB2F8 R23 (in), R24 IO92NB2F8 R24 (in), R25 IO92PB2F8 R25 (in), R26 IO91NB2F8 R26 (in), R27 IO95PB2F8 R27 (in), R28 GND R28 (in), R29 IO93NB2F8 R29 (in), R30 IO93PB2F8 R30 (in), T2 IO224PB6F20 T2 (in), T5 IO219NB6F20 T5 (in), T6 IO223PB6F20 T6 (in), T7 IO223NB6F20 T7 (in), T8 IO221NB6F20 T8 (in), T9 IO221PB6F20 T9 (in), T12 GND T12 (in), T13 GND T13 (in), T14 GND T14 (in), T22 IO98NB3F9 T22 (in), T23 IO98PB3F9 T23 (in), T24 IO100PB3F9 T24 (in), T26 IO99PB3F9 T26 (in), T27 IO95NB2F8 T27 (in), T29 IO96NB3F9 T29 (in), T30 IO96PB3F9 T30 (in), U2 IO222NB6F20 U2 (in), U3 IO220NB6F20 U3 (in), U4 IO218NB6F20 U4 (in), U5 IO219PB6F20 U5 (in), U6 IO217PB6F20 U6 (in), U7 IO217NB6F20 U7 (in), U8 IO215NB6F20 U8 (in), U9 IO215PB6F20 U9 (in), U22 IO102PB3F9 U22 (in), U23 IO102NB3F9 U23 (in), U24 IO100NB3F9 U24 (in), U25 IO106PB3F9 U25 (in), U26 IO99NB3F9 U26 (in), U27 IO103PB3F9 U27 (in), U28 IO101PB3F9 U28 (in), U29 IO97NB3F9 U29 (in), U30 IO97PB3F9 U30 (in), V2 IO222PB6F20 V2 (in), V3 IO220PB6F20 V3 (in), V4 IO218PB6F20 V4 (in), V5 IO211NB6F19 V5 (in), V6 IO213PB6F19 V6 (in), V7 IO213NB6F19 V7 (in), V8 IO209NB6F19 V8 (in), V9 IO209PB6F19 V9 (in), V22 IO110PB3F10 V22 (in), V23 IO110NB3F10 V23 (in), V24 IO108PB3F10 V24 (in), V25 IO106NB3F9 V25 (in), V26 IO107PB3F10 V26 (in), V27 IO103NB3F9 V27 (in), V28 IO101NB3F9 V28 (in), V29 IO104PB3F9 V29 (in), W1 IO216NB6F20 W1 (in), W2 IO216PB6F20 W2 (in), W3 IO214NB6F20 W3 (in), W4 IO214PB6F20 W4 (in), W5 IO211PB6F19 W5 (in), W6 IO207NB6F19 W6 (in), W7 IO207PB6F19 W7 (in), W8 IO205NB6F19 W8 (in), W23 IO114PB3F10 W23 (in), W24 IO108NB3F10 W24 (in), W25 IO112PB3F10 W25 (in), W26 IO107NB3F10 W26 (in), W27 IO109PB3F10 W27 (in), W28 IO105PB3F9 W28 (in), W29 IO104NB3F9 W29 (in), Y3 IO212NB6F19 Y3 (in), Y4 IO212PB6F19 Y4 (in), Y5 IO204NB6F19 Y5 (in), Y6 IO203NB6F19 Y6 (in), Y7 IO201NB6F18 Y7 (in), Y8 IO205PB6F19 Y8 (in), Y23 IO114NB3F10 Y23 (in), Y24 IO120PB3F11 Y24 (in), Y25 IO112NB3F10 Y25 (in), Y26 IO115PB3F10 Y26 (in), Y27 IO109NB3F10 Y27 (in), Y28 IO105NB3F9 Y28 (in), Y29 IO111PB3F10 Y29 (in)

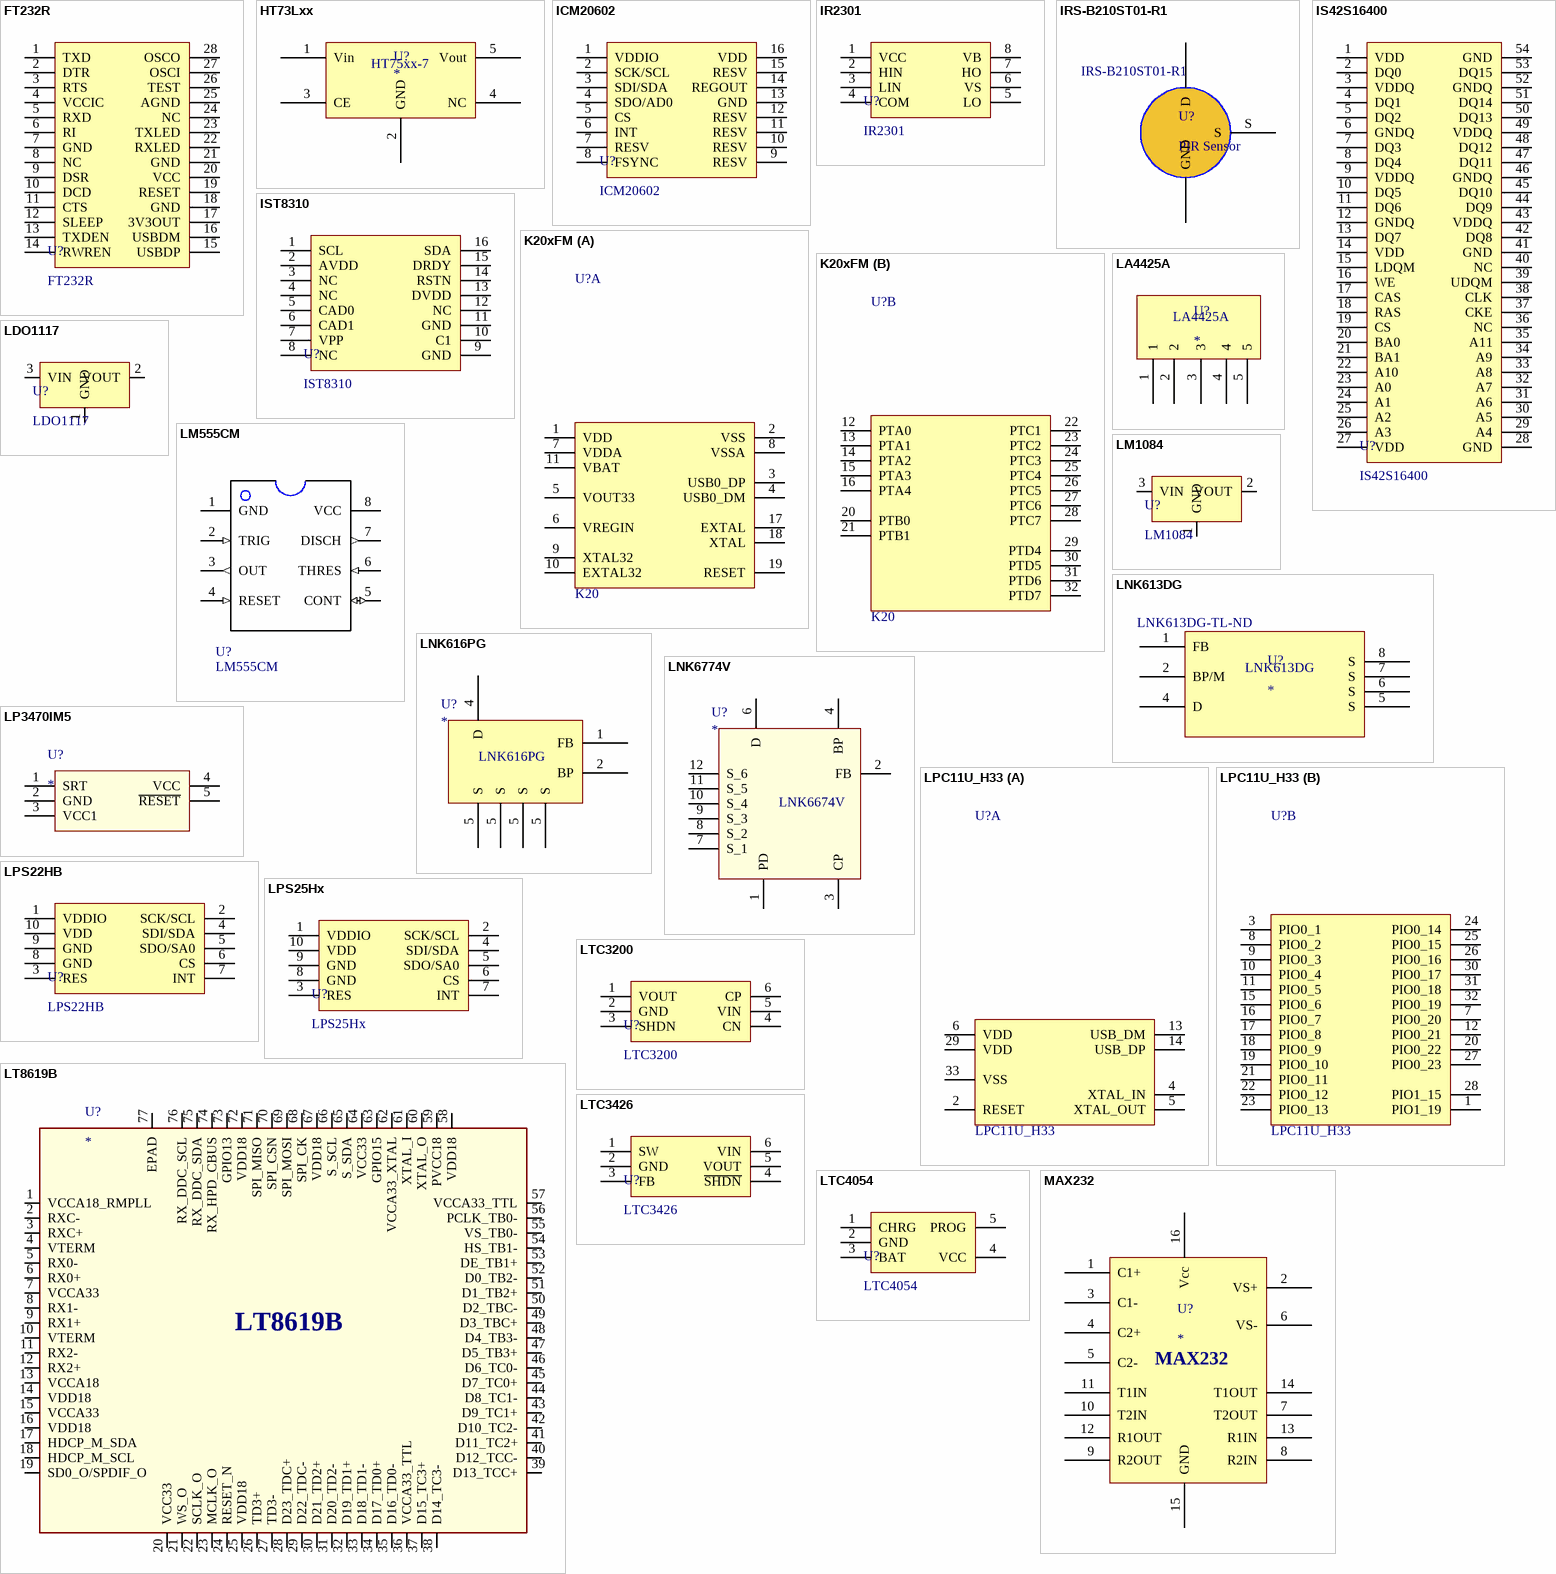
[diagram p4: symbols FT232R to MAX232]

## FT232R
designator U?
USB2UART
footprint SSOP_E210_P0.65_28
pins: 1 TXD, 2 DTR, 3 RTS, 4 VCCIC, 5 RXD, 6 RI, 7 GND, 8 NC, 9 DSR, 10 DCD, 11 CTS, 12 SLEEP, 13 TXDEN, 14 RWREN, 15 USBDP, 16 USBDM, 17 3V3OUT, 18 GND, 19 RESET, 20 VCC, 21 GND, 22 RXLED, 23 TXLED, 24 NC, 25 AGND, 26 TEST, 27 OSCI, 28 OSCO

## HT73Lxx
designator U?
footprint SOT23-5
pins: 1 Vin, 2 GND, 3 CE, 4 NC, 5 Vout
text: HT75xx-7

## ICM20602
designator U?
Sensor Motion; Type: LGA16 P0.5
footprint LGA_P0.5_16
pins: 1 VDDIO, 2 SCK/SCL, 3 SDI/SDA, 4 SDO/AD0, 5 CS, 6 INT, 7 RESV, 8 FSYNC, 9 RESV, 10 RESV, 11 RESV, 12 RESV, 13 GND, 14 REGOUT, 15 RESV, 16 VDD

## IR2301
designator U?
MOSFET Driver
footprint SOP_E150_8
pins: 1 VCC, 2 HIN, 3 LIN, 4 COM, 5 LO, 6 VS, 7 HO, 8 VB

## IRS-B210ST01-R1
designator U?, comment PIR Sensor
Supplier 1: Digi-Key; Supplier Part Number 1: 490-12776-1-ND
footprint IRS-B210ST01-R1
pins: D, G GND, S

## IS42S16400
designator U?
SDRAM
footprint TSOP_E400_P0.8_54
pins: 1 VDD, 2 DQ0, 3 VDDQ, 4 DQ1, 5 DQ2, 6 GNDQ, 7 DQ3, 8 DQ4, 9 VDDQ, 10 DQ5, 11 DQ6, 12 GNDQ, 13 DQ7, 14 VDD, 15 LDQM, 16 WE, 17 CAS, 18 RAS, 19 CS, 20 BA0, 21 BA1, 22 A10, 23 A0, 24 A1, 25 A2, 26 A3, 27 VDD, 28 GND, 29 A4, 30 A5, 31 A6, 32 A7, 33 A8, 34 A9, 35 A11, 36 NC, 37 CKE, 38 CLK, 39 UDQM, 40 NC, 41 GND, 42 DQ8, 43 VDDQ, 44 DQ9, 45 DQ10, 46 GNDQ, 47 DQ11, 48 DQ12, 49 VDDQ, 50 DQ13, 51 DQ14, 52 GNDQ, 53 DQ15, 54 GND

## IST8310
designator U?
Sensor Magnetometer; Type: QFN16 P0.5
footprint QFN_P0.5_16
pins: 1 SCL, 2 AVDD, 3 NC, 4 NC, 5 CAD0, 6 CAD1, 7 VPP, 8 NC, 9 GND, 10 C1, 11 GND, 12 NC, 13 DVDD, 14 RSTN, 15 DRDY, 16 SDA

## K20xFM
designator U?, comment K20
MCU
footprint QFN_P0.5_32
part A pins: 1 VDD, 2 VSS, 3 USB0_DP, 4 USB0_DM, 5 VOUT33, 6 VREGIN, 7 VDDA, 8 VSSA, 9 XTAL32, 10 EXTAL32, 11 VBAT, 17 EXTAL, 18 XTAL, 19 RESET
part B pins: 12 PTA0, 13 PTA1, 14 PTA2, 15 PTA3, 16 PTA4, 20 PTB0, 21 PTB1, 22 PTC1, 23 PTC2, 24 PTC3, 25 PTC4, 26 PTC5, 27 PTC6, 28 PTC7, 29 PTD4, 30 PTD5, 31 PTD6, 32 PTD7

## LA4425A
designator U?
footprint LA4425A
pins: 1, 2, 3, 4, 5

## LDO1117
designator U?
Power; Type: SOT223-3
footprint SOT223-3
footprint SOT89-3
pins: 1 GND, 2 VOUT, 3 VIN

## LM555CM
designator U?
Highly stable 555 timer for generating accurate time delays and oscillation 8-SOIC 0 to 70; MF: Texas Instruments; MP: LM555CM/NOPB; Price: 0.87 USD; SnapEDA_Link: https://www.snapeda.com/parts/LM555CM/NOPB/Texas%2520Instruments/view-part/?ref=snap; Availability: Good; Package: SOIC-8 Texas Instruments; Value: *
footprint SO08
pins: 1 GND, 2 TRIG (in), 3 OUT (out), 4 RESET (in), 5 CONT (io), 6 THRES (in), 7 DISCH (out), 8 VCC (power)

## LM1084
designator U?
Power
footprint TO-263-3
pins: 1 GND, 2 VOUT (power), 3 VIN

## LNK613DG
designator U?  Supplier Part Number 1: LNK613DG-TL-ND
Supplier 1: Digi-Key
footprint SO-8C
pins: 1 FB, 2 BP/M, 4 D, 5 S, 6 S, 7 S, 8 S

## LNK616PG
designator U?
pins: 1 FB, 2 BP, 4 D, 5 S, 5 S, 5 S, 5 S

## LNK6774V
designator U?
footprint LNK6674V
pins: 1 PD, 2 FB, 3 CP, 4 BP, 6 D, 7 S_1, 8 S_2, 9 S_3, 10 S_4, 11 S_5, 12 S_6
text: LNK6674V

## LP3470IM5
designator U?
footprint SOT23_5
pins: 1 SRT, 2 GND, 3 VCC1, 4 VCC, 5 ~{RESET}

## LPC11U_H33
designator U?
MCU
footprint QFN_P0.5_32
part A pins: 2 RESET, 4 XTAL_IN, 5 XTAL_OUT, 6 VDD, 13 USB_DM, 14 USB_DP, 29 VDD, 33 VSS
part B pins: 1 PIO1_19, 3 PIO0_1, 7 PIO0_20, 8 PIO0_2, 9 PIO0_3, 10 PIO0_4, 11 PIO0_5, 12 PIO0_21, 15 PIO0_6, 16 PIO0_7, 17 PIO0_8, 18 PIO0_9, 19 PIO0_10, 20 PIO0_22, 21 PIO0_11, 22 PIO0_12, 23 PIO0_13, 24 PIO0_14, 25 PIO0_15, 26 PIO0_16, 27 PIO0_23, 28 PIO1_15, 30 PIO0_17, 31 PIO0_18, 32 PIO0_19

## LPS22HB
designator U?
Sensor Pressure; Type: LGA10 P0.5
footprint HCLGA-2x2_10
pins: 1 VDDIO, 2 SCK/SCL, 3 RES, 4 SDI/SDA, 5 SDO/SA0, 6 CS, 7 INT, 8 GND, 9 GND, 10 VDD

## LPS25Hx
designator U?
Sensor Pressure
footprint HCLGA-2.5x2.5_10
pins: 1 VDDIO, 2 SCK/SCL, 3 RES, 4 SDI/SDA, 5 SDO/SA0, 6 CS, 7 INT, 8 GND, 9 GND, 10 VDD

## LT8619B
designator U?
footprint QFN76
pins: 1 VCCA18_RMPLL, 2 RXC-, 3 RXC+, 4 VTERM, 5 RX0-, 6 RX0+, 7 VCCA33, 8 RX1-, 9 RX1+, 10 VTERM, 11 RX2-, 12 RX2+, 13 VCCA18, 14 VDD18, 15 VCCA33, 16 VDD18, 17 HDCP_M_SDA, 18 HDCP_M_SCL, 19 SD0_O/SPDIF_O, 20 VCC33, 21 WS_O, 22 SCLK_O, 23 MCLK_O, 24 RESET_N, 25 VDD18, 26 TD3+, 27 TD3-, 28 D23_TDC+, 29 D22_TDC-, 30 D21_TD2+, 31 D20_TD2-, 32 D19_TD1+, 33 D18_TD1-, 34 D17_TD0+, 35 D16_TD0-, 36 VCCA33_TTL, 37 D15_TC3+, 38 D14_TC3-, 39 D13_TCC+, 40 D12_TCC-, 41 D11_TC2+, 42 D10_TC2-, 43 D9_TC1+, 44 D8_TC1-, 45 D7_TC0+, 46 D6_TC0-, 47 D5_TB3+, 48 D4_TB3-, 49 D3_TBC+, 50 D2_TBC-, 51 D1_TB2+, 52 D0_TB2-, 53 DE_TB1+, 54 HS_TB1-, 55 VS_TB0-, 56 PCLK_TB0-, 57 VCCA33_TTL, 58 VDD18, 59 PVCC18, 60 XTAL_O, 61 XTAL_I, 62 VCCA33_XTAL, 63 GPIO15, 64 VCC33, 65 S_SDA, 66 S_SCL, 67 VDD18, 68 SPI_CK, 69 SPI_MOSI, 70 SPI_CSN, 71 SPI_MISO, 72 VDD18, 73 GPIO13, 74 RX_HPD_CBUS, 75 RX_DDC_SDA, 76 RX_DDC_SCL, 77 EPAD

## LTC3200
designator U?
Power; Type: SOT23-6
footprint SOT23-6
pins: 1 VOUT, 2 GND, 3 SHDN, 4 CN, 5 VIN, 6 CP

## LTC3426
designator U?
Power; Type: SOT23-6
footprint SOT23-6
pins: 1 SW, 2 GND, 3 FB, 4 ~{SHDN}, 5 VOUT, 6 VIN

## LTC4054
designator U?
Charge
footprint SOT23-5
pins: 1 CHRG, 2 GND, 3 BAT, 4 VCC, 5 PROG

## MAX232
designator U?
footprint SOIC16 (9.90 mm × 3.91 mm)
pins: 1 C1+, 2 VS+, 3 C1-, 4 C2+, 5 C2-, 6 VS-, 7 T2OUT, 8 R2IN, 9 R2OUT, 10 T2IN, 11 T1IN , 12 R1OUT, 13 R1IN, 14 T1OUT, 15 GND, 16 Vcc

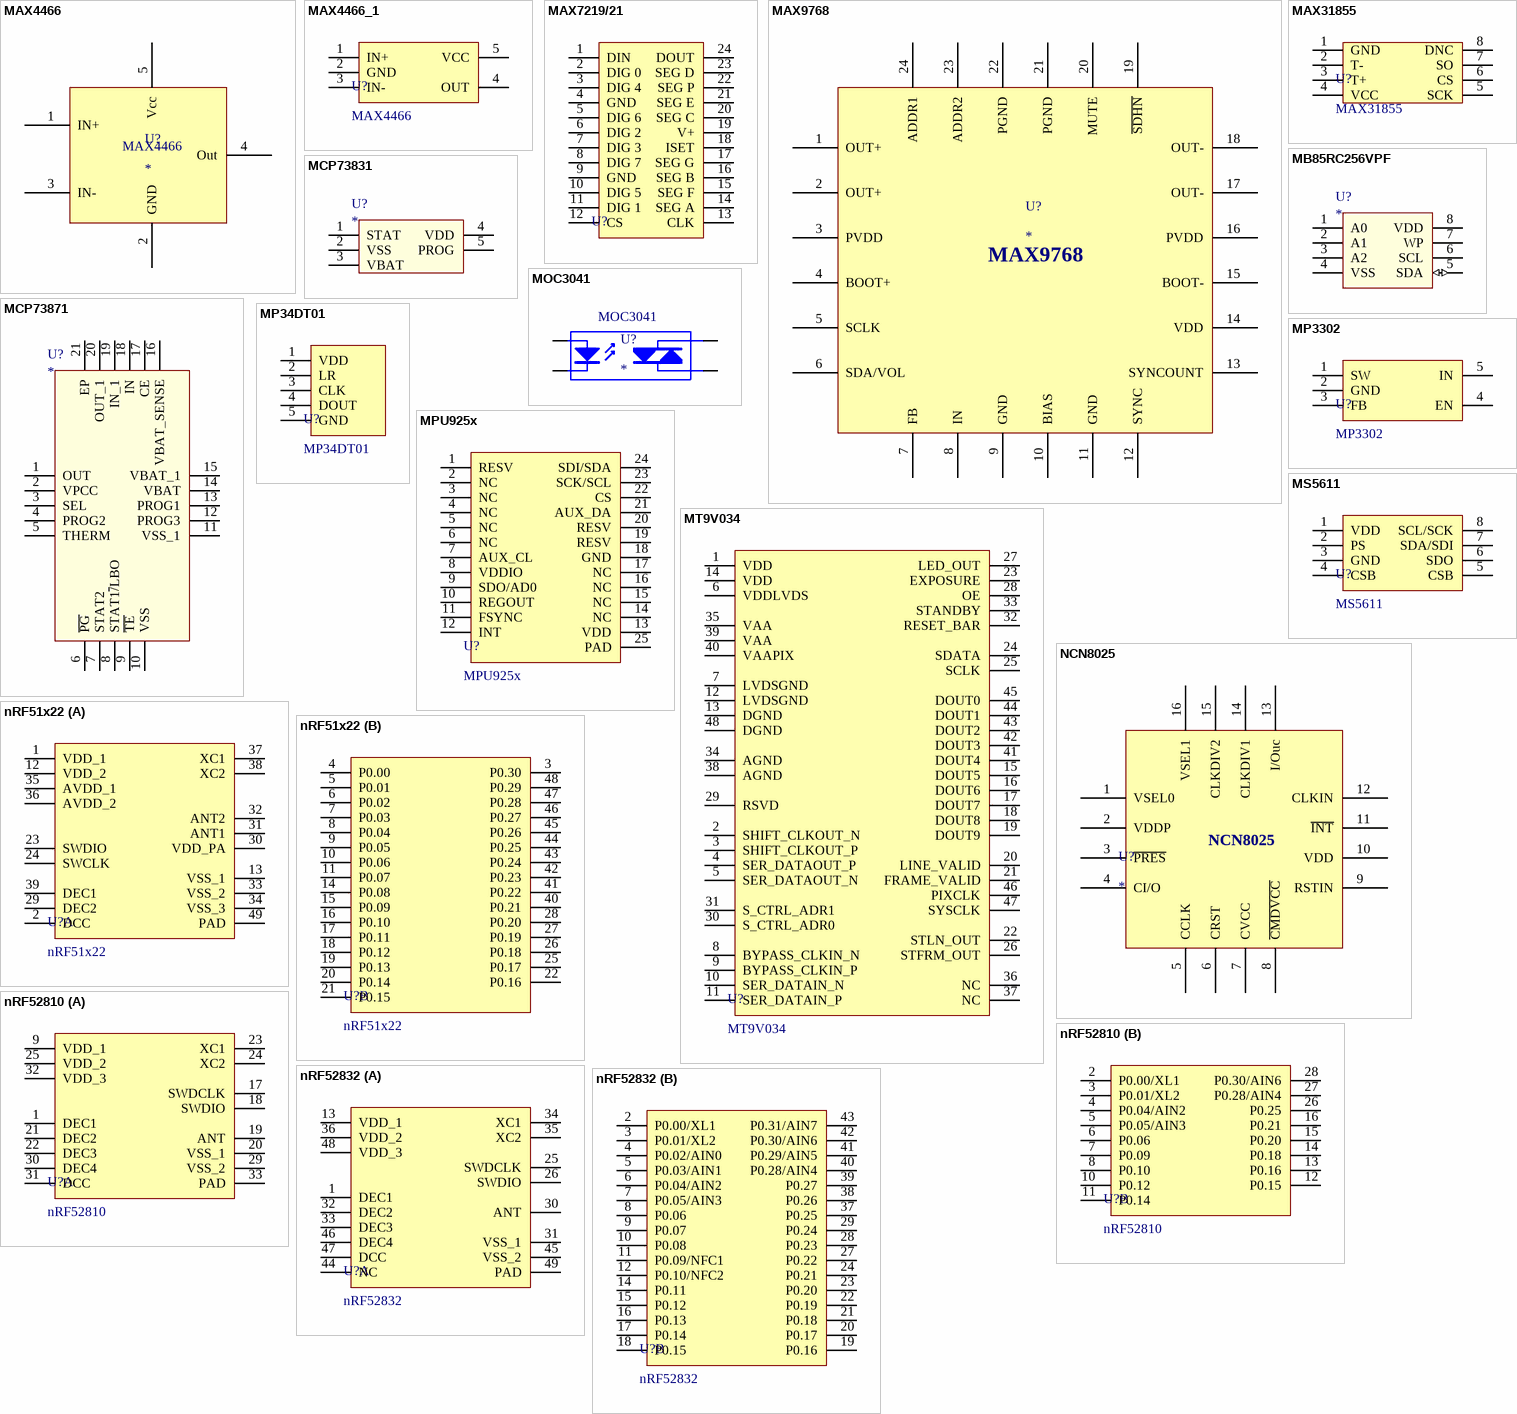
[diagram p5: symbols MAX4466 to nRF52832]

## MAX4466
designator U?
footprint SOT23
pins: 1 IN+, 2 GND, 3 IN-, 4 Out, 5 Vcc

## MAX4466_1
designator U?, comment MAX4466
Microphone
footprint SOT23-5
pins: 1 IN+, 2 GND, 3 IN-, 4 OUT, 5 VCC

## MAX7219/21
designator U?  (value not drawn)
Driver
footprint SOP_E300_24
pins: 1 DIN, 2 DIG 0, 3 DIG 4, 4 GND, 5 DIG 6, 6 DIG 2, 7 DIG 3, 8 DIG 7, 9 GND, 10 DIG 5, 11 DIG 1, 12 CS, 13 CLK, 14 SEG A, 15 SEG F, 16 SEG B, 17 SEG G, 18 ISET, 19 V+, 20 SEG C, 21 SEG E, 22 SEG P, 23 SEG D, 24 DOUT

## MAX9768
designator U?
footprint TQFN-24 4x4
pins: 1 OUT+, 2 OUT+, 3 PVDD, 4 BOOT+, 5 SCLK, 6 SDA/VOL, 7 FB, 8 IN, 9 GND, 10 BIAS, 11 GND, 12 SYNC, 13 SYNCOUNT, 14 VDD, 15 BOOT-, 16 PVDD, 17 OUT-, 18 OUT-, 19 ~{SDHN}, 20 MUTE, 21 PGND, 22 PGND, 23 ADDR2, 24 ADDR1

## MAX31855
designator U?
Thermocouple
footprint SOIC_E200_8
pins: 1 GND, 2 T-, 3 T+, 4 VCC, 5 SCK, 6 CS, 7 SO, 8 DNC

## MB85RC256VPF
designator U?
footprint SOIC127P798X210
pins: 1 A0, 2 A1, 3 A2, 4 VSS, 5 SDA (io), 6 SCL, 7 WP, 8 VDD (power)

## MCP73831
designator U?
footprint SOT95P270X145
pins: 1 STAT, 2 VSS, 3 VBAT, 4 VDD, 5 PROG

## MCP73871
designator U?
footprint QFN50P400x400
pins: 1 OUT, 2 VPCC, 3 SEL, 4 PROG2, 5 THERM, 6 ~{PG}, 7 STAT2, 8 STAT1~{/}LBO, 9 ~{TE}, 10 VSS, 11 VSS_1, 12 PROG3, 13 PROG1, 14 VBAT, 15 VBAT_1, 16 VBAT_SENSE, 17 CE, 18 IN, 19 IN_1, 20 OUT_1, 21 EP

## MOC3041
designator U?
Supplier 1: RSComponents; Supplier Part Number 1: 806-6023P
footprint SMT-6 PIN (SOP, 6-Leads, Body 8.50x6.35mm, Pitch 2.54mm, IPC Medium Density)
pins: 1 A, 2 K, 4 A/K, 6 A/K

## MP34DT01
designator U?
Sensor Microphone
footprint HCLGA_3x4_4
pins: 1 VDD, 2 LR, 3 CLK, 4 DOUT, 5 GND

## MP3302
designator U?
WLED Driver
footprint SOT23-5
pins: 1 SW, 2 GND, 3 FB, 4 EN, 5 IN

## MPU925x
designator U?
Sensor Motion; Type: QFN24 P0.4
footprint QFN_P0.4_24
pins: 1 RESV, 2 NC, 3 NC, 4 NC, 5 NC, 6 NC, 7 AUX_CL, 8 VDDIO, 9 SDO/AD0, 10 REGOUT, 11 FSYNC, 12 INT, 13 VDD, 14 NC, 15 NC, 16 NC, 17 NC, 18 GND, 19 RESV, 20 RESV, 21 AUX_DA, 22 CS, 23 SCK/SCL, 24 SDI/SDA, 25 PAD

## MS5611
designator U?
Sensor
footprint OTHER_MS5611_8
pins: 1 VDD, 2 PS, 3 GND, 4 CSB, 5 CSB, 6 SDO, 7 SDA/SDI, 8 SCL/SCK

## MT9V034
designator U?
CMOS
footprint CLCC_48 (LCC, 48-Pins, Body 11.43x11.43mmx2.30mm, Pitch 0.80mm, IPC Medium Density)
pins: 1 VDD, 2 SHIFT_CLKOUT_N, 3 SHIFT_CLKOUT_P, 4 SER_DATAOUT_P, 5 SER_DATAOUT_N, 6 VDDLVDS, 7 LVDSGND, 8 BYPASS_CLKIN_N, 9 BYPASS_CLKIN_P, 10 SER_DATAIN_N, 11 SER_DATAIN_P, 12 LVDSGND, 13 DGND, 14 VDD, 15 DOUT5, 16 DOUT6, 17 DOUT7, 18 DOUT8, 19 DOUT9, 20 LINE_VALID, 21 FRAME_VALID, 22 STLN_OUT, 23 EXPOSURE, 24 SDATA, 25 SCLK, 26 STFRM_OUT, 27 LED_OUT, 28 OE, 29 RSVD, 30 S_CTRL_ADR0, 31 S_CTRL_ADR1, 32 RESET_BAR, 33 STANDBY, 34 AGND, 35 VAA, 36 NC, 37 NC, 38 AGND, 39 VAA, 40 VAAPIX, 41 DOUT4, 42 DOUT3, 43 DOUT2, 44 DOUT1, 45 DOUT0, 46 PIXCLK, 47 SYSCLK, 48 DGND

## NCN8025
designator U?
footprint QFN-16
pins: 1 VSEL0, 2 VDDP, 3 ~{PRES}, 4 CI/O, 5 CCLK, 6 CRST, 7 CVCC, 8 ~{CMDVCC}, 9 RSTIN, 10 VDD, 11 ~{INT}, 12 CLKIN, 13 I/Ouc, 14 CLKDIV1, 15 CLKDIV2, 16 VSEL1